# Altium schematic symbol library MCU_NXP_Kinetis.SchLib: 155 symbols (part 3 of 4)
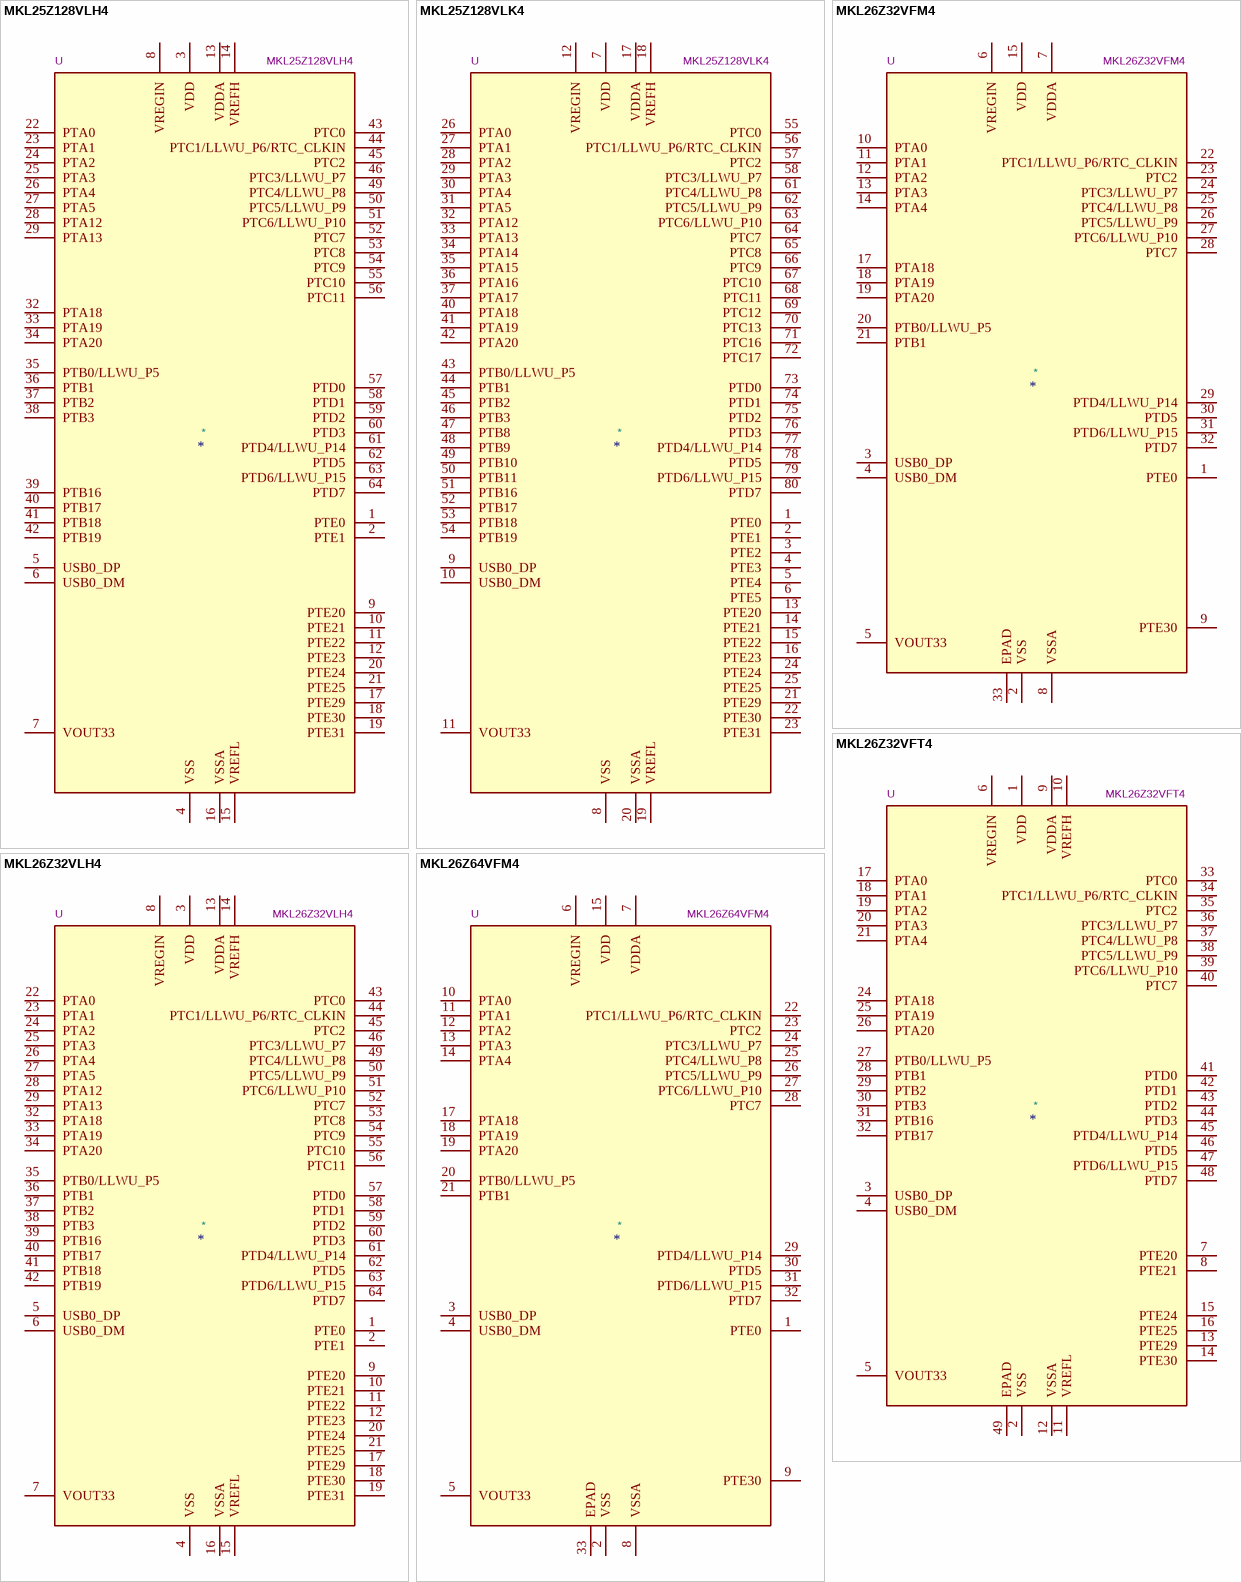
[diagram p32: symbols MKL25Z128VLH4 to MKL26Z64VFM4]

## MKL25Z128VLH4
designator *  value MKL25Z128VLH4  Reference: U
ki_keywords: Kinetis KL25 ARM Cortex M0+; ki_description: Kinetis KL25 series, 48-MHz/32-bit ARM Cortex-M0+, 128 kB flash, 16 kB SRAM, USB FS Device/OTG, LQFP-64; ki_fp_filters: LQFP*10x10mm*P0.5mm*; Footprint: Package_QFP:LQFP-64_10x10mm_P0.5mm; Datasheet: http://www.nxp.com/docs/en/data-sheet/KL25P80M48SF0.pdf
pins: 1 PTE0, 2 PTE1, 3 VDD, 4 VSS, 5 USB0_DP, 6 USB0_DM, 7 VOUT33, 8 VREGIN, 9 PTE20, 10 PTE21, 11 PTE22, 12 PTE23, 13 VDDA, 14 VREFH, 15 VREFL, 16 VSSA, 17 PTE29, 18 PTE30, 19 PTE31, 20 PTE24, 21 PTE25, 22 PTA0, 23 PTA1, 24 PTA2, 25 PTA3, 26 PTA4, 27 PTA5, 28 PTA12, 29 PTA13, 30 VDD hidden, 31 VSS hidden, 32 PTA18, 33 PTA19, 34 PTA20, 35 PTB0/LLWU_P5, 36 PTB1, 37 PTB2, 38 PTB3, 39 PTB16, 40 PTB17, 41 PTB18, 42 PTB19, 43 PTC0, 44 PTC1/LLWU_P6/RTC_CLKIN, 45 PTC2, 46 PTC3/LLWU_P7, 47 VSS hidden, 48 VDD hidden, 49 PTC4/LLWU_P8, 50 PTC5/LLWU_P9, 51 PTC6/LLWU_P10, 52 PTC7, 53 PTC8, 54 PTC9, 55 PTC10, 56 PTC11, 57 PTD0, 58 PTD1, 59 PTD2, 60 PTD3, 61 PTD4/LLWU_P14, 62 PTD5, 63 PTD6/LLWU_P15, 64 PTD7

## MKL25Z128VLK4
designator *  value MKL25Z128VLK4  Reference: U
ki_keywords: Kinetis KL25 ARM Cortex M0+; ki_description: Kinetis KL25 series, 48-MHz/32-bit ARM Cortex-M0+, 128 kB flash, 16 kB SRAM, USB FS Device/OTG, LQFP-80; ki_fp_filters: LQFP*12x12mm*P0.5mm*; Footprint: Package_QFP:LQFP-80_12x12mm_P0.5mm; Datasheet: http://www.nxp.com/docs/en/data-sheet/KL25P80M48SF0.pdf
pins: 1 PTE0, 2 PTE1, 3 PTE2, 4 PTE3, 5 PTE4, 6 PTE5, 7 VDD, 8 VSS, 9 USB0_DP, 10 USB0_DM, 11 VOUT33, 12 VREGIN, 13 PTE20, 14 PTE21, 15 PTE22, 16 PTE23, 17 VDDA, 18 VREFH, 19 VREFL, 20 VSSA, 21 PTE29, 22 PTE30, 23 PTE31, 24 PTE24, 25 PTE25, 26 PTA0, 27 PTA1, 28 PTA2, 29 PTA3, 30 PTA4, 31 PTA5, 32 PTA12, 33 PTA13, 34 PTA14, 35 PTA15, 36 PTA16, 37 PTA17, 38 VDD hidden, 39 VSS hidden, 40 PTA18, 41 PTA19, 42 PTA20, 43 PTB0/LLWU_P5, 44 PTB1, 45 PTB2, 46 PTB3, 47 PTB8, 48 PTB9, 49 PTB10, 50 PTB11, 51 PTB16, 52 PTB17, 53 PTB18, 54 PTB19, 55 PTC0, 56 PTC1/LLWU_P6/RTC_CLKIN, 57 PTC2, 58 PTC3/LLWU_P7, 59 VSS hidden, 60 VDD hidden, 61 PTC4/LLWU_P8, 62 PTC5/LLWU_P9, 63 PTC6/LLWU_P10, 64 PTC7, 65 PTC8, 66 PTC9, 67 PTC10, 68 PTC11, 69 PTC12, 70 PTC13, 71 PTC16, 72 PTC17, 73 PTD0, 74 PTD1, 75 PTD2, 76 PTD3, 77 PTD4/LLWU_P14, 78 PTD5, 79 PTD6/LLWU_P15, 80 PTD7

## MKL26Z32VFM4
designator *  value MKL26Z32VFM4  Reference: U
ki_keywords: Kinetis KL26 ARM Cortex M0+; ki_description: Kinetis KL26 series, 48-MHz/32-bit ARM Cortex-M0+, 32 kB flash, 4 kB SRAM, USB FS Device/OTG, QFN-32; ki_fp_filters: QFN*5x5mm*P0.5mm*; Footprint: Package_DFN_QFN:QFN-32-1EP_5x5mm_P0.5mm_EP3.45x3.45mm; Datasheet: http://www.nxp.com/docs/en/data-sheet/KL26P64M48SF5.pdf
pins: 1 PTE0, 2 VSS, 3 USB0_DP, 4 USB0_DM, 5 VOUT33, 6 VREGIN, 7 VDDA, 8 VSSA, 9 PTE30, 10 PTA0, 11 PTA1, 12 PTA2, 13 PTA3, 14 PTA4, 15 VDD, 16 VSS hidden, 17 PTA18, 18 PTA19, 19 PTA20, 20 PTB0/LLWU_P5, 21 PTB1, 22 PTC1/LLWU_P6/RTC_CLKIN, 23 PTC2, 24 PTC3/LLWU_P7, 25 PTC4/LLWU_P8, 26 PTC5/LLWU_P9, 27 PTC6/LLWU_P10, 28 PTC7, 29 PTD4/LLWU_P14, 30 PTD5, 31 PTD6/LLWU_P15, 32 PTD7, 33 EPAD

## MKL26Z32VFT4
designator *  value MKL26Z32VFT4  Reference: U
ki_keywords: Kinetis KL26 ARM Cortex M0+; ki_description: Kinetis KL26 series, 48-MHz/32-bit ARM Cortex-M0+, 32 kB flash, 4 kB SRAM, USB FS Device/OTG, QFN-48; ki_fp_filters: QFN*7x7mm*P0.5mm*; Footprint: Package_DFN_QFN:QFN-48-1EP_7x7mm_P0.5mm_EP5.15x5.15mm; Datasheet: http://www.nxp.com/docs/en/data-sheet/KL26P64M48SF5.pdf
pins: 1 VDD, 2 VSS, 3 USB0_DP, 4 USB0_DM, 5 VOUT33, 6 VREGIN, 7 PTE20, 8 PTE21, 9 VDDA, 10 VREFH, 11 VREFL, 12 VSSA, 13 PTE29, 14 PTE30, 15 PTE24, 16 PTE25, 17 PTA0, 18 PTA1, 19 PTA2, 20 PTA3, 21 PTA4, 22 VDD hidden, 23 VSS hidden, 24 PTA18, 25 PTA19, 26 PTA20, 27 PTB0/LLWU_P5, 28 PTB1, 29 PTB2, 30 PTB3, 31 PTB16, 32 PTB17, 33 PTC0, 34 PTC1/LLWU_P6/RTC_CLKIN, 35 PTC2, 36 PTC3/LLWU_P7, 37 PTC4/LLWU_P8, 38 PTC5/LLWU_P9, 39 PTC6/LLWU_P10, 40 PTC7, 41 PTD0, 42 PTD1, 43 PTD2, 44 PTD3, 45 PTD4/LLWU_P14, 46 PTD5, 47 PTD6/LLWU_P15, 48 PTD7, 49 EPAD

## MKL26Z32VLH4
designator *  value MKL26Z32VLH4  Reference: U
ki_keywords: Kinetis KL26 ARM Cortex M0+; ki_description: Kinetis KL26 series, 48-MHz/32-bit ARM Cortex-M0+, 32 kB flash, 4 kB SRAM, USB FS Device/OTG, LQFP-64; ki_fp_filters: LQFP*10x10mm*P0.5mm*; Footprint: Package_QFP:LQFP-64_10x10mm_P0.5mm; Datasheet: http://www.nxp.com/docs/en/data-sheet/KL26P64M48SF5.pdf
pins: 1 PTE0, 2 PTE1, 3 VDD, 4 VSS, 5 USB0_DP, 6 USB0_DM, 7 VOUT33, 8 VREGIN, 9 PTE20, 10 PTE21, 11 PTE22, 12 PTE23, 13 VDDA, 14 VREFH, 15 VREFL, 16 VSSA, 17 PTE29, 18 PTE30, 19 PTE31, 20 PTE24, 21 PTE25, 22 PTA0, 23 PTA1, 24 PTA2, 25 PTA3, 26 PTA4, 27 PTA5, 28 PTA12, 29 PTA13, 30 VDD hidden, 31 VSS hidden, 32 PTA18, 33 PTA19, 34 PTA20, 35 PTB0/LLWU_P5, 36 PTB1, 37 PTB2, 38 PTB3, 39 PTB16, 40 PTB17, 41 PTB18, 42 PTB19, 43 PTC0, 44 PTC1/LLWU_P6/RTC_CLKIN, 45 PTC2, 46 PTC3/LLWU_P7, 47 VSS hidden, 48 VDD hidden, 49 PTC4/LLWU_P8, 50 PTC5/LLWU_P9, 51 PTC6/LLWU_P10, 52 PTC7, 53 PTC8, 54 PTC9, 55 PTC10, 56 PTC11, 57 PTD0, 58 PTD1, 59 PTD2, 60 PTD3, 61 PTD4/LLWU_P14, 62 PTD5, 63 PTD6/LLWU_P15, 64 PTD7

## MKL26Z64VFM4
designator *  value MKL26Z64VFM4  Reference: U
ki_keywords: Kinetis KL26 ARM Cortex M0+; ki_description: Kinetis KL26 series, 48-MHz/32-bit ARM Cortex-M0+, 64 kB flash, 8 kB SRAM, USB FS Device/OTG, QFN-32; ki_fp_filters: QFN*5x5mm*P0.5mm*; Footprint: Package_DFN_QFN:QFN-32-1EP_5x5mm_P0.5mm_EP3.45x3.45mm; Datasheet: http://www.nxp.com/docs/en/data-sheet/KL26P64M48SF5.pdf
pins: 1 PTE0, 2 VSS, 3 USB0_DP, 4 USB0_DM, 5 VOUT33, 6 VREGIN, 7 VDDA, 8 VSSA, 9 PTE30, 10 PTA0, 11 PTA1, 12 PTA2, 13 PTA3, 14 PTA4, 15 VDD, 16 VSS hidden, 17 PTA18, 18 PTA19, 19 PTA20, 20 PTB0/LLWU_P5, 21 PTB1, 22 PTC1/LLWU_P6/RTC_CLKIN, 23 PTC2, 24 PTC3/LLWU_P7, 25 PTC4/LLWU_P8, 26 PTC5/LLWU_P9, 27 PTC6/LLWU_P10, 28 PTC7, 29 PTD4/LLWU_P14, 30 PTD5, 31 PTD6/LLWU_P15, 32 PTD7, 33 EPAD

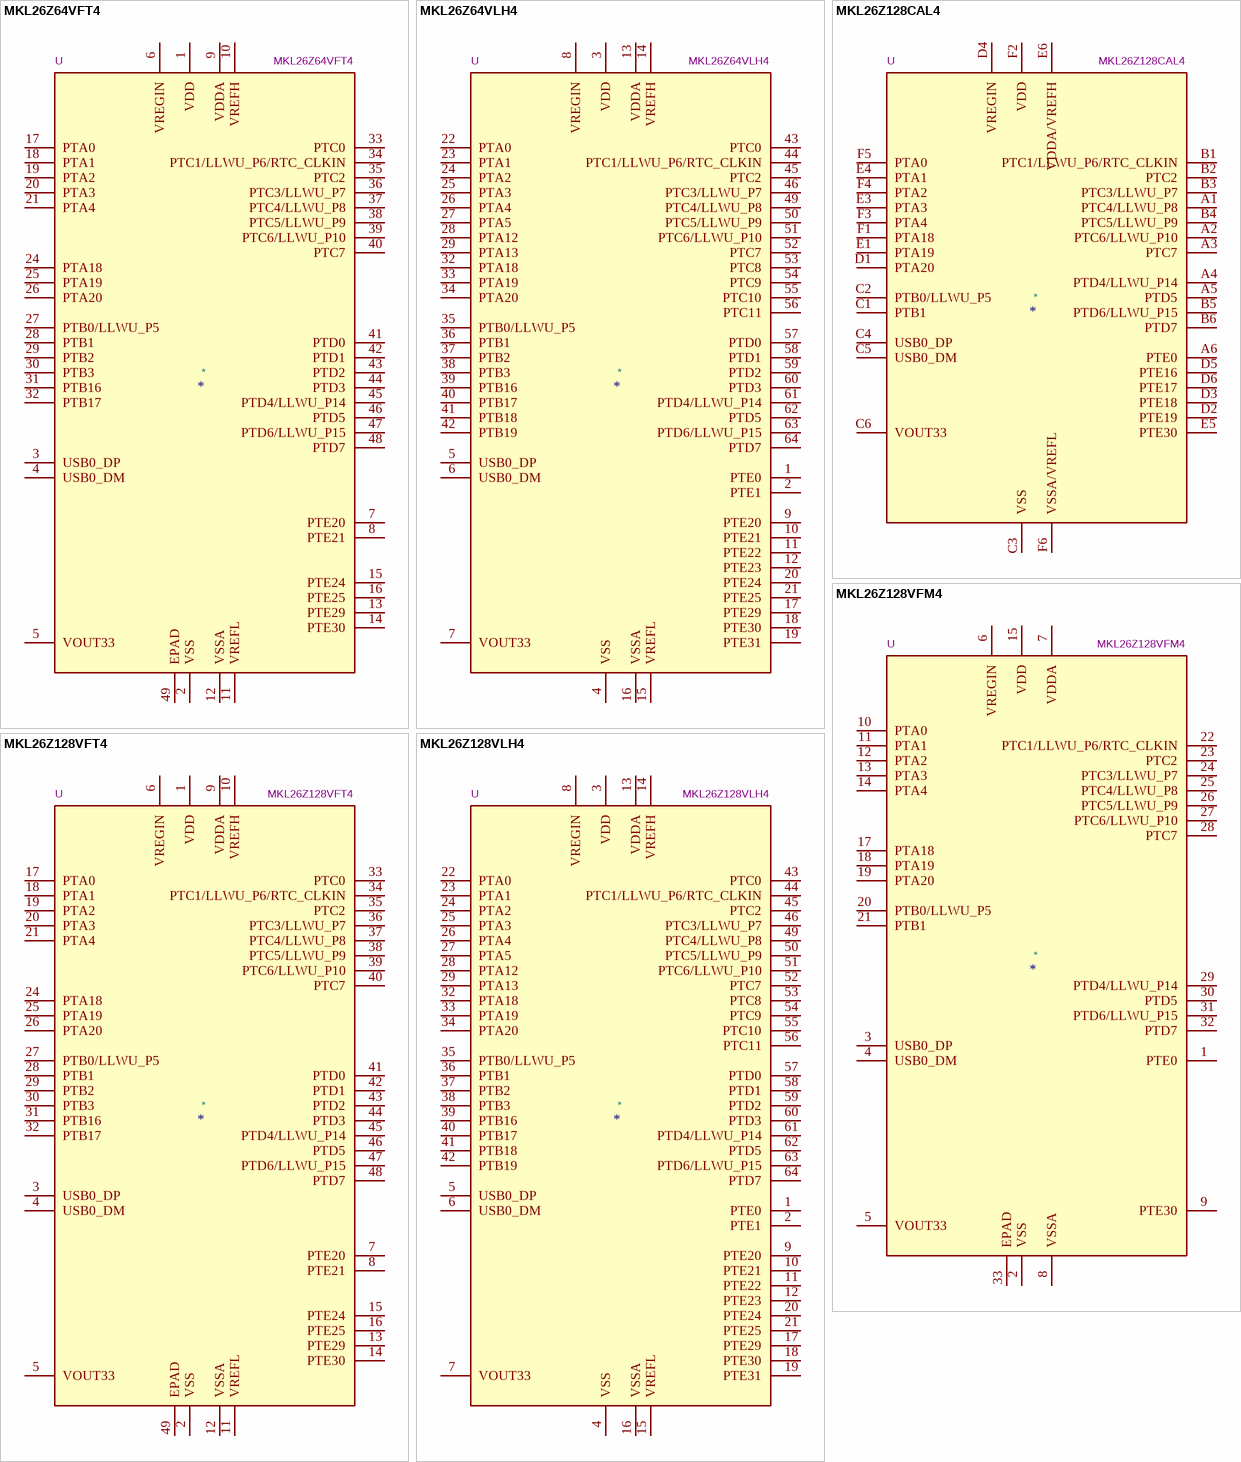
[diagram p21: symbols MKL26Z64VFT4 to MKL26Z128VLH4]

## MKL26Z64VFT4
designator *  value MKL26Z64VFT4  Reference: U
ki_keywords: Kinetis KL26 ARM Cortex M0+; ki_description: Kinetis KL26 series, 48-MHz/32-bit ARM Cortex-M0+, 64 kB flash, 8 kB SRAM, USB FS Device/OTG, QFN-48; ki_fp_filters: QFN*7x7mm*P0.5mm*; Footprint: Package_DFN_QFN:QFN-48-1EP_7x7mm_P0.5mm_EP5.15x5.15mm; Datasheet: http://www.nxp.com/docs/en/data-sheet/KL26P64M48SF5.pdf
pins: 1 VDD, 2 VSS, 3 USB0_DP, 4 USB0_DM, 5 VOUT33, 6 VREGIN, 7 PTE20, 8 PTE21, 9 VDDA, 10 VREFH, 11 VREFL, 12 VSSA, 13 PTE29, 14 PTE30, 15 PTE24, 16 PTE25, 17 PTA0, 18 PTA1, 19 PTA2, 20 PTA3, 21 PTA4, 22 VDD hidden, 23 VSS hidden, 24 PTA18, 25 PTA19, 26 PTA20, 27 PTB0/LLWU_P5, 28 PTB1, 29 PTB2, 30 PTB3, 31 PTB16, 32 PTB17, 33 PTC0, 34 PTC1/LLWU_P6/RTC_CLKIN, 35 PTC2, 36 PTC3/LLWU_P7, 37 PTC4/LLWU_P8, 38 PTC5/LLWU_P9, 39 PTC6/LLWU_P10, 40 PTC7, 41 PTD0, 42 PTD1, 43 PTD2, 44 PTD3, 45 PTD4/LLWU_P14, 46 PTD5, 47 PTD6/LLWU_P15, 48 PTD7, 49 EPAD

## MKL26Z64VLH4
designator *  value MKL26Z64VLH4  Reference: U
ki_keywords: Kinetis KL26 ARM Cortex M0+; ki_description: Kinetis KL26 series, 48-MHz/32-bit ARM Cortex-M0+, 64 kB flash, 8 kB SRAM, USB FS Device/OTG, LQFP-64; ki_fp_filters: LQFP*10x10mm*P0.5mm*; Footprint: Package_QFP:LQFP-64_10x10mm_P0.5mm; Datasheet: http://www.nxp.com/docs/en/data-sheet/KL26P64M48SF5.pdf
pins: 1 PTE0, 2 PTE1, 3 VDD, 4 VSS, 5 USB0_DP, 6 USB0_DM, 7 VOUT33, 8 VREGIN, 9 PTE20, 10 PTE21, 11 PTE22, 12 PTE23, 13 VDDA, 14 VREFH, 15 VREFL, 16 VSSA, 17 PTE29, 18 PTE30, 19 PTE31, 20 PTE24, 21 PTE25, 22 PTA0, 23 PTA1, 24 PTA2, 25 PTA3, 26 PTA4, 27 PTA5, 28 PTA12, 29 PTA13, 30 VDD hidden, 31 VSS hidden, 32 PTA18, 33 PTA19, 34 PTA20, 35 PTB0/LLWU_P5, 36 PTB1, 37 PTB2, 38 PTB3, 39 PTB16, 40 PTB17, 41 PTB18, 42 PTB19, 43 PTC0, 44 PTC1/LLWU_P6/RTC_CLKIN, 45 PTC2, 46 PTC3/LLWU_P7, 47 VSS hidden, 48 VDD hidden, 49 PTC4/LLWU_P8, 50 PTC5/LLWU_P9, 51 PTC6/LLWU_P10, 52 PTC7, 53 PTC8, 54 PTC9, 55 PTC10, 56 PTC11, 57 PTD0, 58 PTD1, 59 PTD2, 60 PTD3, 61 PTD4/LLWU_P14, 62 PTD5, 63 PTD6/LLWU_P15, 64 PTD7

## MKL26Z128CAL4
designator *  value MKL26Z128CAL4  Reference: U
ki_keywords: Kinetis KL26 ARM Cortex M0+; ki_description: Kinetis KL26 series, 48-MHz/32-bit ARM Cortex-M0+, 128 kB flash, 16 kB SRAM, USB FS Device/OTG, WLCSP-36; ki_fp_filters: WLCSP*2.374x2.459mm*P0.35mm*; Footprint: Package_CSP:WLCSP-36_2.374x2.459mm_Layout6x6_P0.35mm; Datasheet: http://www.nxp.com/docs/en/data-sheet/KL26P36M48SF5.pdf
pins: A1 PTC4/LLWU_P8, A2 PTC6/LLWU_P10, A3 PTC7, A4 PTD4/LLWU_P14, A5 PTD5, A6 PTE0, B1 PTC1/LLWU_P6/RTC_CLKIN, B2 PTC2, B3 PTC3/LLWU_P7, B4 PTC5/LLWU_P9, B5 PTD6/LLWU_P15, B6 PTD7, C1 PTB1, C2 PTB0/LLWU_P5, C3 VSS, C4 USB0_DP, C5 USB0_DM, C6 VOUT33, D1 PTA20, D2 PTE19, D3 PTE18, D4 VREGIN, D5 PTE16, D6 PTE17, E1 PTA19, E2 VSS hidden, E3 PTA3, E4 PTA1, E5 PTE30, E6 VDDA/VREFH, F1 PTA18, F2 VDD, F3 PTA4, F4 PTA2, F5 PTA0, F6 VSSA/VREFL

## MKL26Z128VFM4
designator *  value MKL26Z128VFM4  Reference: U
ki_keywords: Kinetis KL26 ARM Cortex M0+; ki_description: Kinetis KL26 series, 48-MHz/32-bit ARM Cortex-M0+, 128 kB flash, 16 kB SRAM, USB FS Device/OTG, QFN-32; ki_fp_filters: QFN*5x5mm*P0.5mm*; Footprint: Package_DFN_QFN:QFN-32-1EP_5x5mm_P0.5mm_EP3.45x3.45mm; Datasheet: http://www.nxp.com/docs/en/data-sheet/KL26P64M48SF5.pdf
pins: 1 PTE0, 2 VSS, 3 USB0_DP, 4 USB0_DM, 5 VOUT33, 6 VREGIN, 7 VDDA, 8 VSSA, 9 PTE30, 10 PTA0, 11 PTA1, 12 PTA2, 13 PTA3, 14 PTA4, 15 VDD, 16 VSS hidden, 17 PTA18, 18 PTA19, 19 PTA20, 20 PTB0/LLWU_P5, 21 PTB1, 22 PTC1/LLWU_P6/RTC_CLKIN, 23 PTC2, 24 PTC3/LLWU_P7, 25 PTC4/LLWU_P8, 26 PTC5/LLWU_P9, 27 PTC6/LLWU_P10, 28 PTC7, 29 PTD4/LLWU_P14, 30 PTD5, 31 PTD6/LLWU_P15, 32 PTD7, 33 EPAD

## MKL26Z128VFT4
designator *  value MKL26Z128VFT4  Reference: U
ki_keywords: Kinetis KL26 ARM Cortex M0+; ki_description: Kinetis KL26 series, 48-MHz/32-bit ARM Cortex-M0+, 128 kB flash, 16 kB SRAM, USB FS Device/OTG, QFN-48; ki_fp_filters: QFN*7x7mm*P0.5mm*; Footprint: Package_DFN_QFN:QFN-48-1EP_7x7mm_P0.5mm_EP5.15x5.15mm; Datasheet: http://www.nxp.com/docs/en/data-sheet/KL26P64M48SF5.pdf
pins: 1 VDD, 2 VSS, 3 USB0_DP, 4 USB0_DM, 5 VOUT33, 6 VREGIN, 7 PTE20, 8 PTE21, 9 VDDA, 10 VREFH, 11 VREFL, 12 VSSA, 13 PTE29, 14 PTE30, 15 PTE24, 16 PTE25, 17 PTA0, 18 PTA1, 19 PTA2, 20 PTA3, 21 PTA4, 22 VDD hidden, 23 VSS hidden, 24 PTA18, 25 PTA19, 26 PTA20, 27 PTB0/LLWU_P5, 28 PTB1, 29 PTB2, 30 PTB3, 31 PTB16, 32 PTB17, 33 PTC0, 34 PTC1/LLWU_P6/RTC_CLKIN, 35 PTC2, 36 PTC3/LLWU_P7, 37 PTC4/LLWU_P8, 38 PTC5/LLWU_P9, 39 PTC6/LLWU_P10, 40 PTC7, 41 PTD0, 42 PTD1, 43 PTD2, 44 PTD3, 45 PTD4/LLWU_P14, 46 PTD5, 47 PTD6/LLWU_P15, 48 PTD7, 49 EPAD

## MKL26Z128VLH4
designator *  value MKL26Z128VLH4  Reference: U
ki_keywords: Kinetis KL26 ARM Cortex M0+; ki_description: Kinetis KL26 series, 48-MHz/32-bit ARM Cortex-M0+, 128 kB flash, 16 kB SRAM, USB FS Device/OTG, LQFP-64; ki_fp_filters: LQFP*10x10mm*P0.5mm*; Footprint: Package_QFP:LQFP-64_10x10mm_P0.5mm; Datasheet: http://www.nxp.com/docs/en/data-sheet/KL26P64M48SF5.pdf
pins: 1 PTE0, 2 PTE1, 3 VDD, 4 VSS, 5 USB0_DP, 6 USB0_DM, 7 VOUT33, 8 VREGIN, 9 PTE20, 10 PTE21, 11 PTE22, 12 PTE23, 13 VDDA, 14 VREFH, 15 VREFL, 16 VSSA, 17 PTE29, 18 PTE30, 19 PTE31, 20 PTE24, 21 PTE25, 22 PTA0, 23 PTA1, 24 PTA2, 25 PTA3, 26 PTA4, 27 PTA5, 28 PTA12, 29 PTA13, 30 VDD hidden, 31 VSS hidden, 32 PTA18, 33 PTA19, 34 PTA20, 35 PTB0/LLWU_P5, 36 PTB1, 37 PTB2, 38 PTB3, 39 PTB16, 40 PTB17, 41 PTB18, 42 PTB19, 43 PTC0, 44 PTC1/LLWU_P6/RTC_CLKIN, 45 PTC2, 46 PTC3/LLWU_P7, 47 VSS hidden, 48 VDD hidden, 49 PTC4/LLWU_P8, 50 PTC5/LLWU_P9, 51 PTC6/LLWU_P10, 52 PTC7, 53 PTC8, 54 PTC9, 55 PTC10, 56 PTC11, 57 PTD0, 58 PTD1, 59 PTD2, 60 PTD3, 61 PTD4/LLWU_P14, 62 PTD5, 63 PTD6/LLWU_P15, 64 PTD7

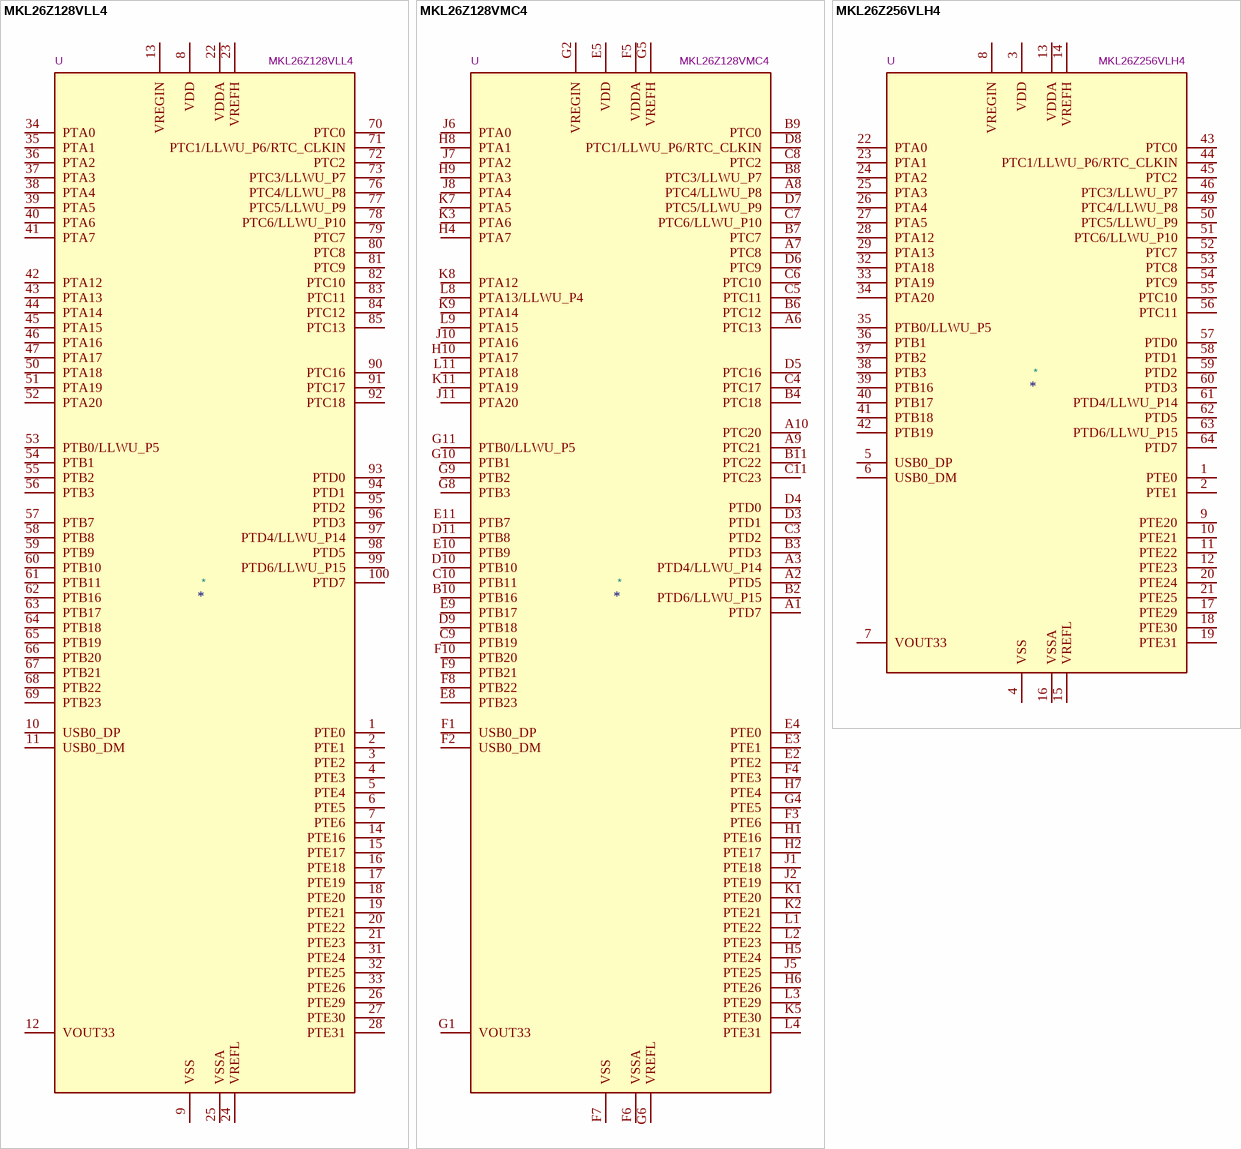
[diagram p22: symbols MKL26Z128VLL4 to MKL26Z256VLH4]

## MKL26Z128VLL4
designator *  value MKL26Z128VLL4  Reference: U
ki_keywords: Kinetis KL26 ARM Cortex M0+; ki_description: Kinetis KL26 series, 48-MHz/32-bit ARM Cortex-M0+, 128 kB flash, 16 kB SRAM, USB FS Device/OTG, LQFP-100; ki_fp_filters: LQFP*14x14mm*P0.5mm*; Footprint: Package_QFP:LQFP-100_14x14mm_P0.5mm; Datasheet: http://www.nxp.com/docs/en/data-sheet/KL26P121M48SF4.pdf
pins: 1 PTE0, 2 PTE1, 3 PTE2, 4 PTE3, 5 PTE4, 6 PTE5, 7 PTE6, 8 VDD, 9 VSS, 10 USB0_DP, 11 USB0_DM, 12 VOUT33, 13 VREGIN, 14 PTE16, 15 PTE17, 16 PTE18, 17 PTE19, 18 PTE20, 19 PTE21, 20 PTE22, 21 PTE23, 22 VDDA, 23 VREFH, 24 VREFL, 25 VSSA, 26 PTE29, 27 PTE30, 28 PTE31, 29 VSS hidden, 30 VDD hidden, 31 PTE24, 32 PTE25, 33 PTE26, 34 PTA0, 35 PTA1, 36 PTA2, 37 PTA3, 38 PTA4, 39 PTA5, 40 PTA6, 41 PTA7, 42 PTA12, 43 PTA13, 44 PTA14, 45 PTA15, 46 PTA16, 47 PTA17, 48 VDD hidden, 49 VSS hidden, 50 PTA18, 51 PTA19, 52 PTA20, 53 PTB0/LLWU_P5, 54 PTB1, 55 PTB2, 56 PTB3, 57 PTB7, 58 PTB8, 59 PTB9, 60 PTB10, 61 PTB11, 62 PTB16, 63 PTB17, 64 PTB18, 65 PTB19, 66 PTB20, 67 PTB21, 68 PTB22, 69 PTB23, 70 PTC0, 71 PTC1/LLWU_P6/RTC_CLKIN, 72 PTC2, 73 PTC3/LLWU_P7, 74 VSS hidden, 75 VDD hidden, 76 PTC4/LLWU_P8, 77 PTC5/LLWU_P9, 78 PTC6/LLWU_P10, 79 PTC7, 80 PTC8, 81 PTC9, 82 PTC10, 83 PTC11, 84 PTC12, 85 PTC13, 86 NC hidden, 87 NC hidden, 88 NC hidden, 89 NC hidden, 90 PTC16, 91 PTC17, 92 PTC18, 93 PTD0, 94 PTD1, 95 PTD2, 96 PTD3, 97 PTD4/LLWU_P14, 98 PTD5, 99 PTD6/LLWU_P15, 100 PTD7

## MKL26Z128VMC4
designator *  value MKL26Z128VMC4  Reference: U
ki_keywords: Kinetis KL26 ARM Cortex M0+; ki_description: Kinetis KL26 series, 48-MHz/32-bit ARM Cortex-M0+, 128 kB flash, 16 kB SRAM, USB FS Device/OTG, XFBGA-121; ki_fp_filters: XFBGA*8x8mm*P0.65mm*; Footprint: Package_BGA:XFBGA-121_8x8mm_Layout11x11_P0.65mm; Datasheet: http://www.nxp.com/docs/en/data-sheet/KL26P121M48SF4.pdf
pins: A1 PTD7, A2 PTD5, A3 PTD4/LLWU_P14, A4 NC hidden, A5 NC hidden, A6 PTC13, A7 PTC8, A8 PTC4/LLWU_P8, A9 PTC21, A10 PTC20, A11 NC hidden, B1 NC hidden, B2 PTD6/LLWU_P15, B3 PTD3, B4 PTC18, B5 NC hidden, B6 PTC12, B7 PTC7, B8 PTC3/LLWU_P7, B9 PTC0, B10 PTB16, B11 PTC22, C1 NC hidden, C2 NC hidden, C3 PTD2, C4 PTC17, C5 PTC11, C6 PTC10, C7 PTC6/LLWU_P10, C8 PTC2, C9 PTB19, C10 PTB11, C11 PTC23, D1 NC hidden, D2 NC hidden, D3 PTD1, D4 PTD0, D5 PTC16, D6 PTC9, D7 PTC5/LLWU_P9, D8 PTC1/LLWU_P6/RTC_CLKIN, D9 PTB18, D10 PTB10, D11 PTB8, E1 NC hidden, E2 PTE2, E3 PTE1, E4 PTE0, E5 VDD, E6 VDD hidden, E7 VDD hidden, E8 PTB23, E9 PTB17, E10 PTB9, E11 PTB7, F1 USB0_DP, F2 USB0_DM, F3 PTE6, F4 PTE3, F5 VDDA, F6 VSSA, F7 VSS, F8 PTB22, F9 PTB21, F10 PTB20, F11 NC hidden, G1 VOUT33, G2 VREGIN, G3 VSS hidden, G4 PTE5, G5 VREFH, G6 VREFL, G7 VSS hidden, G8 PTB3, G9 PTB2, G10 PTB1, G11 PTB0/LLWU_P5, H1 PTE16, H2 PTE17, H3 NC hidden, H4 PTA7, H5 PTE24, H6 PTE26, H7 PTE4, H8 PTA1, H9 PTA3, H10 PTA17, H11 NC hidden, J1 PTE18, J2 PTE19, J3 NC hidden, J4 NC hidden, J5 PTE25, J6 PTA0, J7 PTA2, J8 PTA4, J9 NC hidden, J10 PTA16, J11 PTA20, K1 PTE20, K2 PTE21, K3 PTA6, K4 NC hidden, K5 PTE30, K6 VDD hidden, K7 PTA5, K8 PTA12, K9 PTA14, K10 VSS hidden, K11 PTA19, L1 PTE22, L2 PTE23, L3 PTE29, L4 PTE31, L5 VSS hidden, L6 VSS hidden, L7 NC hidden, L8 PTA13/LLWU_P4, L9 PTA15, L10 VDD hidden, L11 PTA18

## MKL26Z256VLH4
designator *  value MKL26Z256VLH4  Reference: U
ki_keywords: Kinetis KL26 ARM Cortex M0+; ki_description: Kinetis KL26 series, 48-MHz/32-bit ARM Cortex-M0+, 256 kB flash, 32 kB SRAM, USB FS Device/OTG, LQFP-64; ki_fp_filters: LQFP*10x10mm*P0.5mm*; Footprint: Package_QFP:LQFP-64_10x10mm_P0.5mm; Datasheet: http://www.nxp.com/docs/en/data-sheet/KL26P121M48SF4.pdf
pins: 1 PTE0, 2 PTE1, 3 VDD, 4 VSS, 5 USB0_DP, 6 USB0_DM, 7 VOUT33, 8 VREGIN, 9 PTE20, 10 PTE21, 11 PTE22, 12 PTE23, 13 VDDA, 14 VREFH, 15 VREFL, 16 VSSA, 17 PTE29, 18 PTE30, 19 PTE31, 20 PTE24, 21 PTE25, 22 PTA0, 23 PTA1, 24 PTA2, 25 PTA3, 26 PTA4, 27 PTA5, 28 PTA12, 29 PTA13, 30 VDD hidden, 31 VSS hidden, 32 PTA18, 33 PTA19, 34 PTA20, 35 PTB0/LLWU_P5, 36 PTB1, 37 PTB2, 38 PTB3, 39 PTB16, 40 PTB17, 41 PTB18, 42 PTB19, 43 PTC0, 44 PTC1/LLWU_P6/RTC_CLKIN, 45 PTC2, 46 PTC3/LLWU_P7, 47 VSS hidden, 48 VDD hidden, 49 PTC4/LLWU_P8, 50 PTC5/LLWU_P9, 51 PTC6/LLWU_P10, 52 PTC7, 53 PTC8, 54 PTC9, 55 PTC10, 56 PTC11, 57 PTD0, 58 PTD1, 59 PTD2, 60 PTD3, 61 PTD4/LLWU_P14, 62 PTD5, 63 PTD6/LLWU_P15, 64 PTD7

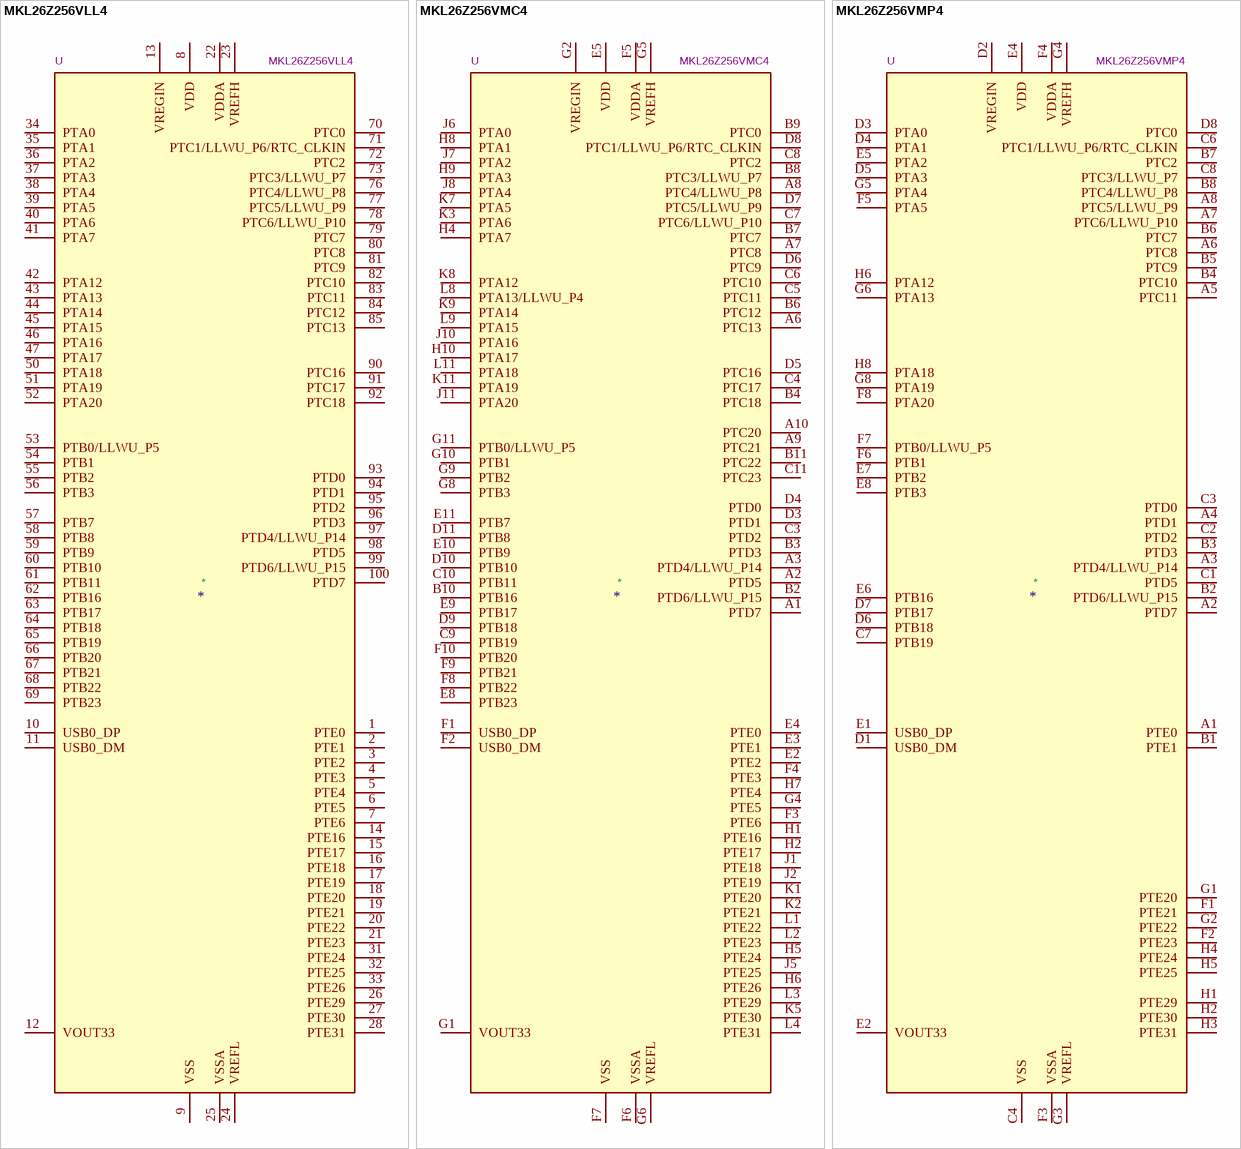
[diagram p23: symbols MKL26Z256VLL4 to MKL26Z256VMP4]

## MKL26Z256VLL4
designator *  value MKL26Z256VLL4  Reference: U
ki_keywords: Kinetis KL26 ARM Cortex M0+; ki_description: Kinetis KL26 series, 48-MHz/32-bit ARM Cortex-M0+, 256 kB flash, 32 kB SRAM, USB FS Device/OTG, LQFP-100; ki_fp_filters: LQFP*14x14mm*P0.5mm*; Footprint: Package_QFP:LQFP-100_14x14mm_P0.5mm; Datasheet: http://www.nxp.com/docs/en/data-sheet/KL26P121M48SF4.pdf
pins: 1 PTE0, 2 PTE1, 3 PTE2, 4 PTE3, 5 PTE4, 6 PTE5, 7 PTE6, 8 VDD, 9 VSS, 10 USB0_DP, 11 USB0_DM, 12 VOUT33, 13 VREGIN, 14 PTE16, 15 PTE17, 16 PTE18, 17 PTE19, 18 PTE20, 19 PTE21, 20 PTE22, 21 PTE23, 22 VDDA, 23 VREFH, 24 VREFL, 25 VSSA, 26 PTE29, 27 PTE30, 28 PTE31, 29 VSS hidden, 30 VDD hidden, 31 PTE24, 32 PTE25, 33 PTE26, 34 PTA0, 35 PTA1, 36 PTA2, 37 PTA3, 38 PTA4, 39 PTA5, 40 PTA6, 41 PTA7, 42 PTA12, 43 PTA13, 44 PTA14, 45 PTA15, 46 PTA16, 47 PTA17, 48 VDD hidden, 49 VSS hidden, 50 PTA18, 51 PTA19, 52 PTA20, 53 PTB0/LLWU_P5, 54 PTB1, 55 PTB2, 56 PTB3, 57 PTB7, 58 PTB8, 59 PTB9, 60 PTB10, 61 PTB11, 62 PTB16, 63 PTB17, 64 PTB18, 65 PTB19, 66 PTB20, 67 PTB21, 68 PTB22, 69 PTB23, 70 PTC0, 71 PTC1/LLWU_P6/RTC_CLKIN, 72 PTC2, 73 PTC3/LLWU_P7, 74 VSS hidden, 75 VDD hidden, 76 PTC4/LLWU_P8, 77 PTC5/LLWU_P9, 78 PTC6/LLWU_P10, 79 PTC7, 80 PTC8, 81 PTC9, 82 PTC10, 83 PTC11, 84 PTC12, 85 PTC13, 86 NC hidden, 87 NC hidden, 88 NC hidden, 89 NC hidden, 90 PTC16, 91 PTC17, 92 PTC18, 93 PTD0, 94 PTD1, 95 PTD2, 96 PTD3, 97 PTD4/LLWU_P14, 98 PTD5, 99 PTD6/LLWU_P15, 100 PTD7

## MKL26Z256VMC4
designator *  value MKL26Z256VMC4  Reference: U
ki_keywords: Kinetis KL26 ARM Cortex M0+; ki_description: Kinetis KL26 series, 48-MHz/32-bit ARM Cortex-M0+, 256 kB flash, 32 kB SRAM, USB FS Device/OTG, XFBGA-121; ki_fp_filters: XFBGA*8x8mm*P0.65mm*; Footprint: Package_BGA:XFBGA-121_8x8mm_Layout11x11_P0.65mm; Datasheet: http://www.nxp.com/docs/en/data-sheet/KL26P121M48SF4.pdf
pins: A1 PTD7, A2 PTD5, A3 PTD4/LLWU_P14, A4 NC hidden, A5 NC hidden, A6 PTC13, A7 PTC8, A8 PTC4/LLWU_P8, A9 PTC21, A10 PTC20, A11 NC hidden, B1 NC hidden, B2 PTD6/LLWU_P15, B3 PTD3, B4 PTC18, B5 NC hidden, B6 PTC12, B7 PTC7, B8 PTC3/LLWU_P7, B9 PTC0, B10 PTB16, B11 PTC22, C1 NC hidden, C2 NC hidden, C3 PTD2, C4 PTC17, C5 PTC11, C6 PTC10, C7 PTC6/LLWU_P10, C8 PTC2, C9 PTB19, C10 PTB11, C11 PTC23, D1 NC hidden, D2 NC hidden, D3 PTD1, D4 PTD0, D5 PTC16, D6 PTC9, D7 PTC5/LLWU_P9, D8 PTC1/LLWU_P6/RTC_CLKIN, D9 PTB18, D10 PTB10, D11 PTB8, E1 NC hidden, E2 PTE2, E3 PTE1, E4 PTE0, E5 VDD, E6 VDD hidden, E7 VDD hidden, E8 PTB23, E9 PTB17, E10 PTB9, E11 PTB7, F1 USB0_DP, F2 USB0_DM, F3 PTE6, F4 PTE3, F5 VDDA, F6 VSSA, F7 VSS, F8 PTB22, F9 PTB21, F10 PTB20, F11 NC hidden, G1 VOUT33, G2 VREGIN, G3 VSS hidden, G4 PTE5, G5 VREFH, G6 VREFL, G7 VSS hidden, G8 PTB3, G9 PTB2, G10 PTB1, G11 PTB0/LLWU_P5, H1 PTE16, H2 PTE17, H3 NC hidden, H4 PTA7, H5 PTE24, H6 PTE26, H7 PTE4, H8 PTA1, H9 PTA3, H10 PTA17, H11 NC hidden, J1 PTE18, J2 PTE19, J3 NC hidden, J4 NC hidden, J5 PTE25, J6 PTA0, J7 PTA2, J8 PTA4, J9 NC hidden, J10 PTA16, J11 PTA20, K1 PTE20, K2 PTE21, K3 PTA6, K4 NC hidden, K5 PTE30, K6 VDD hidden, K7 PTA5, K8 PTA12, K9 PTA14, K10 VSS hidden, K11 PTA19, L1 PTE22, L2 PTE23, L3 PTE29, L4 PTE31, L5 VSS hidden, L6 VSS hidden, L7 NC hidden, L8 PTA13/LLWU_P4, L9 PTA15, L10 VDD hidden, L11 PTA18

## MKL26Z256VMP4
designator *  value MKL26Z256VMP4  Reference: U
ki_keywords: Kinetis KL26 ARM Cortex M0+; ki_description: Kinetis KL26 series, 48-MHz/32-bit ARM Cortex-M0+, 256 kB flash, 32 kB SRAM, USB FS Device/OTG, XFBGA-64; ki_fp_filters: XFBGA*5.0x5.0mm*P0.5mm*; Footprint: Package_BGA:XFBGA-64_5.0x5.0mm_Layout8x8_P0.5mm; Datasheet: http://www.nxp.com/docs/en/data-sheet/KL26P121M48SF4.pdf
pins: A1 PTE0, A2 PTD7, A3 PTD4/LLWU_P14, A4 PTD1, A5 PTC11, A6 PTC8, A7 PTC6/LLWU_P10, A8 PTC5/LLWU_P9, B1 PTE1, B2 PTD6/LLWU_P15, B3 PTD3, B4 PTC10, B5 PTC9, B6 PTC7, B7 PTC2, B8 PTC4/LLWU_P8, C1 PTD5, C2 PTD2, C3 PTD0, C4 VSS, C5 NC hidden, C6 PTC1/LLWU_P6/RTC_CLKIN, C7 PTB19, C8 PTC3/LLWU_P7, D1 USB0_DM, D2 VREGIN, D3 PTA0, D4 PTA1, D5 PTA3, D6 PTB18, D7 PTB17, D8 PTC0, E1 USB0_DP, E2 VOUT33, E3 VSS hidden, E4 VDD, E5 PTA2, E6 PTB16, E7 PTB2, E8 PTB3, F1 PTE21, F2 PTE23, F3 VSSA, F4 VDDA, F5 PTA5, F6 PTB1, F7 PTB0/LLWU_P5, F8 PTA20, G1 PTE20, G2 PTE22, G3 VREFL, G4 VREFH, G5 PTA4, G6 PTA13, G7 VDD hidden, G8 PTA19, H1 PTE29, H2 PTE30, H3 PTE31, H4 PTE24, H5 PTE25, H6 PTA12, H7 VSS hidden, H8 PTA18

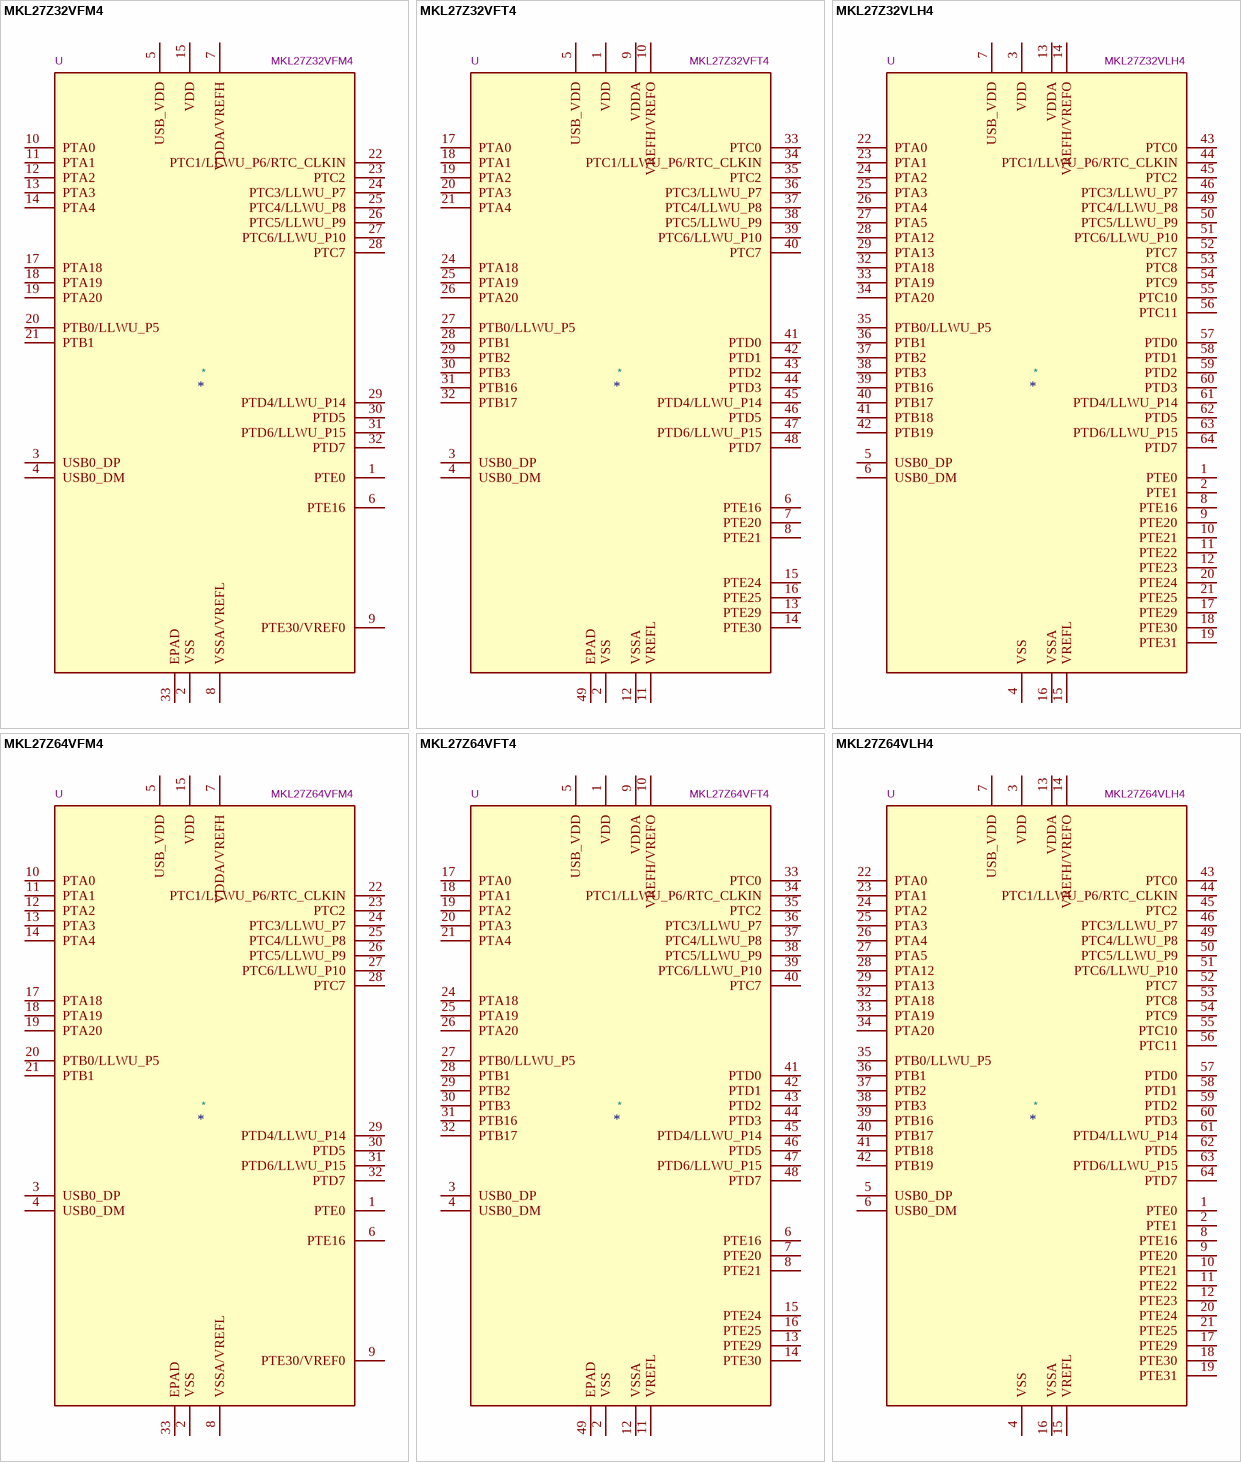
[diagram p24: symbols MKL27Z32VFM4 to MKL27Z64VLH4]

## MKL27Z32VFM4
designator *  value MKL27Z32VFM4  Reference: U
ki_keywords: Kinetis KL27 ARM Cortex M0+; ki_description: Kinetis KL27 series, 48-MHz/32-bit ARM Cortex-M0+, 32 kB flash, 8 kB SRAM, USB FS Device (xtal-less)/OTG, QFN-32; ki_fp_filters: QFN*5x5mm*P0.5mm*; Footprint: Package_DFN_QFN:QFN-32-1EP_5x5mm_P0.5mm_EP3.45x3.45mm; Datasheet: http://www.nxp.com/docs/en/data-sheet/KL27P64M48SF2.pdf
pins: 1 PTE0, 2 VSS, 3 USB0_DP, 4 USB0_DM, 5 USB_VDD, 6 PTE16, 7 VDDA/VREFH, 8 VSSA/VREFL, 9 PTE30/VREF0, 10 PTA0, 11 PTA1, 12 PTA2, 13 PTA3, 14 PTA4, 15 VDD, 16 VSS hidden, 17 PTA18, 18 PTA19, 19 PTA20, 20 PTB0/LLWU_P5, 21 PTB1, 22 PTC1/LLWU_P6/RTC_CLKIN, 23 PTC2, 24 PTC3/LLWU_P7, 25 PTC4/LLWU_P8, 26 PTC5/LLWU_P9, 27 PTC6/LLWU_P10, 28 PTC7, 29 PTD4/LLWU_P14, 30 PTD5, 31 PTD6/LLWU_P15, 32 PTD7, 33 EPAD

## MKL27Z32VFT4
designator *  value MKL27Z32VFT4  Reference: U
ki_keywords: Kinetis KL27 ARM Cortex M0+; ki_description: Kinetis KL27 series, 48-MHz/32-bit ARM Cortex-M0+, 32 kB flash, 8 kB SRAM, USB FS Device (xtal-less)/OTG, QFN-48; ki_fp_filters: QFN*7x7mm*P0.5mm*; Footprint: Package_DFN_QFN:QFN-48-1EP_7x7mm_P0.5mm_EP5.15x5.15mm; Datasheet: http://www.nxp.com/docs/en/data-sheet/KL27P64M48SF2.pdf
pins: 1 VDD, 2 VSS, 3 USB0_DP, 4 USB0_DM, 5 USB_VDD, 6 PTE16, 7 PTE20, 8 PTE21, 9 VDDA, 10 VREFH/VREFO, 11 VREFL, 12 VSSA, 13 PTE29, 14 PTE30, 15 PTE24, 16 PTE25, 17 PTA0, 18 PTA1, 19 PTA2, 20 PTA3, 21 PTA4, 22 VDD hidden, 23 VSS hidden, 24 PTA18, 25 PTA19, 26 PTA20, 27 PTB0/LLWU_P5, 28 PTB1, 29 PTB2, 30 PTB3, 31 PTB16, 32 PTB17, 33 PTC0, 34 PTC1/LLWU_P6/RTC_CLKIN, 35 PTC2, 36 PTC3/LLWU_P7, 37 PTC4/LLWU_P8, 38 PTC5/LLWU_P9, 39 PTC6/LLWU_P10, 40 PTC7, 41 PTD0, 42 PTD1, 43 PTD2, 44 PTD3, 45 PTD4/LLWU_P14, 46 PTD5, 47 PTD6/LLWU_P15, 48 PTD7, 49 EPAD

## MKL27Z32VLH4
designator *  value MKL27Z32VLH4  Reference: U
ki_keywords: Kinetis KL27 ARM Cortex M0+; ki_description: Kinetis KL27 series, 48-MHz/32-bit ARM Cortex-M0+, 32 kB flash, 8 kB SRAM, USB FS Device (xtal-less)/OTG, LQFP-64; ki_fp_filters: LQFP*10x10mm*P0.5mm*; Footprint: Package_QFP:LQFP-64_10x10mm_P0.5mm; Datasheet: http://www.nxp.com/docs/en/data-sheet/KL27P64M48SF2.pdf
pins: 1 PTE0, 2 PTE1, 3 VDD, 4 VSS, 5 USB0_DP, 6 USB0_DM, 7 USB_VDD, 8 PTE16, 9 PTE20, 10 PTE21, 11 PTE22, 12 PTE23, 13 VDDA, 14 VREFH/VREFO, 15 VREFL, 16 VSSA, 17 PTE29, 18 PTE30, 19 PTE31, 20 PTE24, 21 PTE25, 22 PTA0, 23 PTA1, 24 PTA2, 25 PTA3, 26 PTA4, 27 PTA5, 28 PTA12, 29 PTA13, 30 VDD hidden, 31 VSS hidden, 32 PTA18, 33 PTA19, 34 PTA20, 35 PTB0/LLWU_P5, 36 PTB1, 37 PTB2, 38 PTB3, 39 PTB16, 40 PTB17, 41 PTB18, 42 PTB19, 43 PTC0, 44 PTC1/LLWU_P6/RTC_CLKIN, 45 PTC2, 46 PTC3/LLWU_P7, 47 VSS hidden, 48 VDD hidden, 49 PTC4/LLWU_P8, 50 PTC5/LLWU_P9, 51 PTC6/LLWU_P10, 52 PTC7, 53 PTC8, 54 PTC9, 55 PTC10, 56 PTC11, 57 PTD0, 58 PTD1, 59 PTD2, 60 PTD3, 61 PTD4/LLWU_P14, 62 PTD5, 63 PTD6/LLWU_P15, 64 PTD7

## MKL27Z64VFM4
designator *  value MKL27Z64VFM4  Reference: U
ki_keywords: Kinetis KL27 ARM Cortex M0+; ki_description: Kinetis KL27 series, 48-MHz/32-bit ARM Cortex-M0+, 64 kB flash, 16 kB SRAM, USB FS Device (xtal-less)/OTG, QFN-32; ki_fp_filters: QFN*5x5mm*P0.5mm*; Footprint: Package_DFN_QFN:QFN-32-1EP_5x5mm_P0.5mm_EP3.45x3.45mm; Datasheet: http://www.nxp.com/docs/en/data-sheet/KL27P64M48SF2.pdf
pins: 1 PTE0, 2 VSS, 3 USB0_DP, 4 USB0_DM, 5 USB_VDD, 6 PTE16, 7 VDDA/VREFH, 8 VSSA/VREFL, 9 PTE30/VREF0, 10 PTA0, 11 PTA1, 12 PTA2, 13 PTA3, 14 PTA4, 15 VDD, 16 VSS hidden, 17 PTA18, 18 PTA19, 19 PTA20, 20 PTB0/LLWU_P5, 21 PTB1, 22 PTC1/LLWU_P6/RTC_CLKIN, 23 PTC2, 24 PTC3/LLWU_P7, 25 PTC4/LLWU_P8, 26 PTC5/LLWU_P9, 27 PTC6/LLWU_P10, 28 PTC7, 29 PTD4/LLWU_P14, 30 PTD5, 31 PTD6/LLWU_P15, 32 PTD7, 33 EPAD

## MKL27Z64VFT4
designator *  value MKL27Z64VFT4  Reference: U
ki_keywords: Kinetis KL27 ARM Cortex M0+; ki_description: Kinetis KL27 series, 48-MHz/32-bit ARM Cortex-M0+, 64 kB flash, 16 kB SRAM, USB FS Device (xtal-less)/OTG, QFN-48; ki_fp_filters: QFN*7x7mm*P0.5mm*; Footprint: Package_DFN_QFN:QFN-48-1EP_7x7mm_P0.5mm_EP5.15x5.15mm; Datasheet: http://www.nxp.com/docs/en/data-sheet/KL27P64M48SF2.pdf
pins: 1 VDD, 2 VSS, 3 USB0_DP, 4 USB0_DM, 5 USB_VDD, 6 PTE16, 7 PTE20, 8 PTE21, 9 VDDA, 10 VREFH/VREFO, 11 VREFL, 12 VSSA, 13 PTE29, 14 PTE30, 15 PTE24, 16 PTE25, 17 PTA0, 18 PTA1, 19 PTA2, 20 PTA3, 21 PTA4, 22 VDD hidden, 23 VSS hidden, 24 PTA18, 25 PTA19, 26 PTA20, 27 PTB0/LLWU_P5, 28 PTB1, 29 PTB2, 30 PTB3, 31 PTB16, 32 PTB17, 33 PTC0, 34 PTC1/LLWU_P6/RTC_CLKIN, 35 PTC2, 36 PTC3/LLWU_P7, 37 PTC4/LLWU_P8, 38 PTC5/LLWU_P9, 39 PTC6/LLWU_P10, 40 PTC7, 41 PTD0, 42 PTD1, 43 PTD2, 44 PTD3, 45 PTD4/LLWU_P14, 46 PTD5, 47 PTD6/LLWU_P15, 48 PTD7, 49 EPAD

## MKL27Z64VLH4
designator *  value MKL27Z64VLH4  Reference: U
ki_keywords: Kinetis KL27 ARM Cortex M0+; ki_description: Kinetis KL27 series, 48-MHz/32-bit ARM Cortex-M0+, 64 kB flash, 16 kB SRAM, USB FS Device (xtal-less)/OTG, LQFP-64; ki_fp_filters: LQFP*10x10mm*P0.5mm*; Footprint: Package_QFP:LQFP-64_10x10mm_P0.5mm; Datasheet: http://www.nxp.com/docs/en/data-sheet/KL27P64M48SF2.pdf
pins: 1 PTE0, 2 PTE1, 3 VDD, 4 VSS, 5 USB0_DP, 6 USB0_DM, 7 USB_VDD, 8 PTE16, 9 PTE20, 10 PTE21, 11 PTE22, 12 PTE23, 13 VDDA, 14 VREFH/VREFO, 15 VREFL, 16 VSSA, 17 PTE29, 18 PTE30, 19 PTE31, 20 PTE24, 21 PTE25, 22 PTA0, 23 PTA1, 24 PTA2, 25 PTA3, 26 PTA4, 27 PTA5, 28 PTA12, 29 PTA13, 30 VDD hidden, 31 VSS hidden, 32 PTA18, 33 PTA19, 34 PTA20, 35 PTB0/LLWU_P5, 36 PTB1, 37 PTB2, 38 PTB3, 39 PTB16, 40 PTB17, 41 PTB18, 42 PTB19, 43 PTC0, 44 PTC1/LLWU_P6/RTC_CLKIN, 45 PTC2, 46 PTC3/LLWU_P7, 47 VSS hidden, 48 VDD hidden, 49 PTC4/LLWU_P8, 50 PTC5/LLWU_P9, 51 PTC6/LLWU_P10, 52 PTC7, 53 PTC8, 54 PTC9, 55 PTC10, 56 PTC11, 57 PTD0, 58 PTD1, 59 PTD2, 60 PTD3, 61 PTD4/LLWU_P14, 62 PTD5, 63 PTD6/LLWU_P15, 64 PTD7

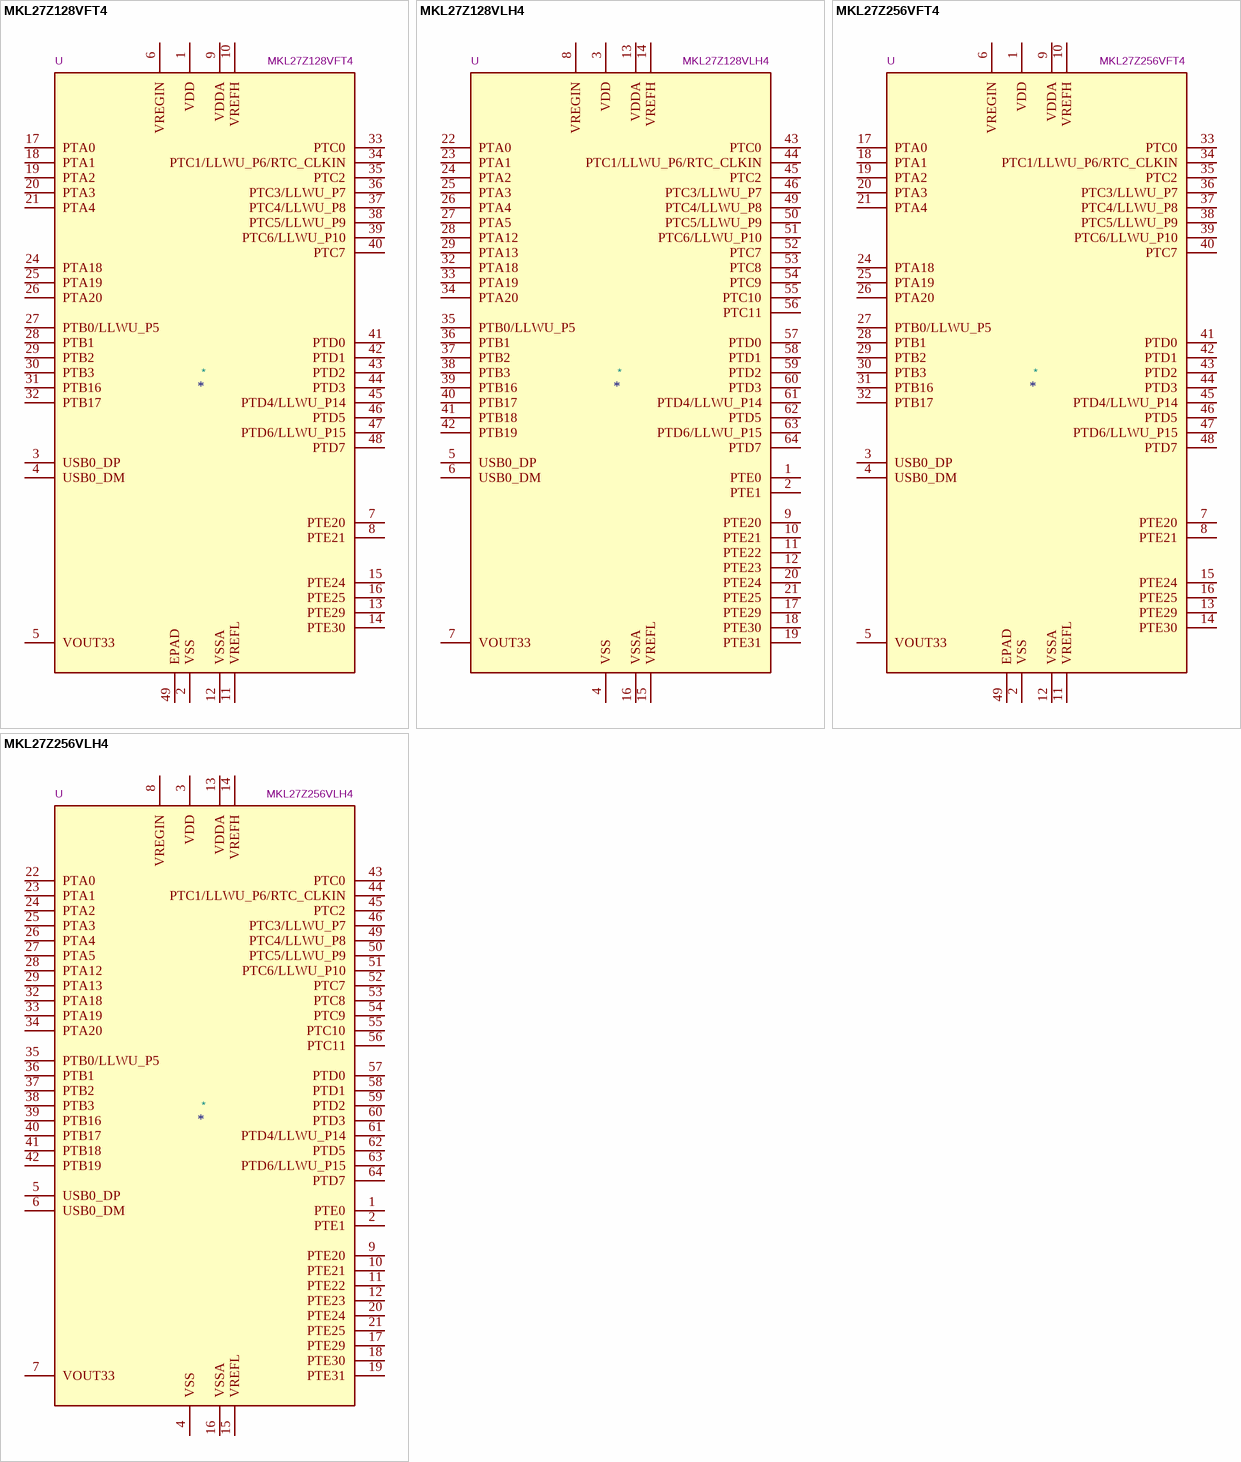
[diagram p25: symbols MKL27Z128VFT4 to MKL27Z256VLH4]

## MKL27Z128VFT4
designator *  value MKL27Z128VFT4  Reference: U
ki_keywords: Kinetis KL27 ARM Cortex M0+; ki_description: Kinetis KL27 series, 48-MHz/32-bit ARM Cortex-M0+, 128 kB flash, 32 kB SRAM, USB FS Device (xtal-less)/OTG, QFN-48; ki_fp_filters: QFN*7x7mm*P0.5mm*; Footprint: Package_DFN_QFN:QFN-48-1EP_7x7mm_P0.5mm_EP5.15x5.15mm; Datasheet: http://www.nxp.com/docs/en/data-sheet/KL27P64M48SF6.pdf
pins: 1 VDD, 2 VSS, 3 USB0_DP, 4 USB0_DM, 5 VOUT33, 6 VREGIN, 7 PTE20, 8 PTE21, 9 VDDA, 10 VREFH, 11 VREFL, 12 VSSA, 13 PTE29, 14 PTE30, 15 PTE24, 16 PTE25, 17 PTA0, 18 PTA1, 19 PTA2, 20 PTA3, 21 PTA4, 22 VDD hidden, 23 VSS hidden, 24 PTA18, 25 PTA19, 26 PTA20, 27 PTB0/LLWU_P5, 28 PTB1, 29 PTB2, 30 PTB3, 31 PTB16, 32 PTB17, 33 PTC0, 34 PTC1/LLWU_P6/RTC_CLKIN, 35 PTC2, 36 PTC3/LLWU_P7, 37 PTC4/LLWU_P8, 38 PTC5/LLWU_P9, 39 PTC6/LLWU_P10, 40 PTC7, 41 PTD0, 42 PTD1, 43 PTD2, 44 PTD3, 45 PTD4/LLWU_P14, 46 PTD5, 47 PTD6/LLWU_P15, 48 PTD7, 49 EPAD

## MKL27Z128VLH4
designator *  value MKL27Z128VLH4  Reference: U
ki_keywords: Kinetis KL27 ARM Cortex M0+; ki_description: Kinetis KL27 series, 48-MHz/32-bit ARM Cortex-M0+, 128 kB flash, 32 kB SRAM, USB FS Device (xtal-less)/OTG, LQFP-64; ki_fp_filters: LQFP*10x10mm*P0.5mm*; Footprint: Package_QFP:LQFP-64_10x10mm_P0.5mm; Datasheet: http://www.nxp.com/docs/en/data-sheet/KL27P64M48SF6.pdf
pins: 1 PTE0, 2 PTE1, 3 VDD, 4 VSS, 5 USB0_DP, 6 USB0_DM, 7 VOUT33, 8 VREGIN, 9 PTE20, 10 PTE21, 11 PTE22, 12 PTE23, 13 VDDA, 14 VREFH, 15 VREFL, 16 VSSA, 17 PTE29, 18 PTE30, 19 PTE31, 20 PTE24, 21 PTE25, 22 PTA0, 23 PTA1, 24 PTA2, 25 PTA3, 26 PTA4, 27 PTA5, 28 PTA12, 29 PTA13, 30 VDD hidden, 31 VSS hidden, 32 PTA18, 33 PTA19, 34 PTA20, 35 PTB0/LLWU_P5, 36 PTB1, 37 PTB2, 38 PTB3, 39 PTB16, 40 PTB17, 41 PTB18, 42 PTB19, 43 PTC0, 44 PTC1/LLWU_P6/RTC_CLKIN, 45 PTC2, 46 PTC3/LLWU_P7, 47 VSS hidden, 48 VDD hidden, 49 PTC4/LLWU_P8, 50 PTC5/LLWU_P9, 51 PTC6/LLWU_P10, 52 PTC7, 53 PTC8, 54 PTC9, 55 PTC10, 56 PTC11, 57 PTD0, 58 PTD1, 59 PTD2, 60 PTD3, 61 PTD4/LLWU_P14, 62 PTD5, 63 PTD6/LLWU_P15, 64 PTD7

## MKL27Z256VFT4
designator *  value MKL27Z256VFT4  Reference: U
ki_keywords: Kinetis KL27 ARM Cortex M0+; ki_description: Kinetis KL27 series, 48-MHz/32-bit ARM Cortex-M0+, 256 kB flash, 32 kB SRAM, USB FS Device (xtal-less)/OTG, QFN-48; ki_fp_filters: QFN*7x7mm*P0.5mm*; Footprint: Package_DFN_QFN:QFN-48-1EP_7x7mm_P0.5mm_EP5.15x5.15mm; Datasheet: http://www.nxp.com/docs/en/data-sheet/KL27P64M48SF6.pdf
pins: 1 VDD, 2 VSS, 3 USB0_DP, 4 USB0_DM, 5 VOUT33, 6 VREGIN, 7 PTE20, 8 PTE21, 9 VDDA, 10 VREFH, 11 VREFL, 12 VSSA, 13 PTE29, 14 PTE30, 15 PTE24, 16 PTE25, 17 PTA0, 18 PTA1, 19 PTA2, 20 PTA3, 21 PTA4, 22 VDD hidden, 23 VSS hidden, 24 PTA18, 25 PTA19, 26 PTA20, 27 PTB0/LLWU_P5, 28 PTB1, 29 PTB2, 30 PTB3, 31 PTB16, 32 PTB17, 33 PTC0, 34 PTC1/LLWU_P6/RTC_CLKIN, 35 PTC2, 36 PTC3/LLWU_P7, 37 PTC4/LLWU_P8, 38 PTC5/LLWU_P9, 39 PTC6/LLWU_P10, 40 PTC7, 41 PTD0, 42 PTD1, 43 PTD2, 44 PTD3, 45 PTD4/LLWU_P14, 46 PTD5, 47 PTD6/LLWU_P15, 48 PTD7, 49 EPAD

## MKL27Z256VLH4
designator *  value MKL27Z256VLH4  Reference: U
ki_keywords: Kinetis KL27 ARM Cortex M0+; ki_description: Kinetis KL27 series, 48-MHz/32-bit ARM Cortex-M0+, 256 kB flash, 32 kB SRAM, USB FS Device (xtal-less)/OTG, LQFP-64; ki_fp_filters: LQFP*10x10mm*P0.5mm*; Footprint: Package_QFP:LQFP-64_10x10mm_P0.5mm; Datasheet: http://www.nxp.com/docs/en/data-sheet/KL27P64M48SF6.pdf
pins: 1 PTE0, 2 PTE1, 3 VDD, 4 VSS, 5 USB0_DP, 6 USB0_DM, 7 VOUT33, 8 VREGIN, 9 PTE20, 10 PTE21, 11 PTE22, 12 PTE23, 13 VDDA, 14 VREFH, 15 VREFL, 16 VSSA, 17 PTE29, 18 PTE30, 19 PTE31, 20 PTE24, 21 PTE25, 22 PTA0, 23 PTA1, 24 PTA2, 25 PTA3, 26 PTA4, 27 PTA5, 28 PTA12, 29 PTA13, 30 VDD hidden, 31 VSS hidden, 32 PTA18, 33 PTA19, 34 PTA20, 35 PTB0/LLWU_P5, 36 PTB1, 37 PTB2, 38 PTB3, 39 PTB16, 40 PTB17, 41 PTB18, 42 PTB19, 43 PTC0, 44 PTC1/LLWU_P6/RTC_CLKIN, 45 PTC2, 46 PTC3/LLWU_P7, 47 VSS hidden, 48 VDD hidden, 49 PTC4/LLWU_P8, 50 PTC5/LLWU_P9, 51 PTC6/LLWU_P10, 52 PTC7, 53 PTC8, 54 PTC9, 55 PTC10, 56 PTC11, 57 PTD0, 58 PTD1, 59 PTD2, 60 PTD3, 61 PTD4/LLWU_P14, 62 PTD5, 63 PTD6/LLWU_P15, 64 PTD7

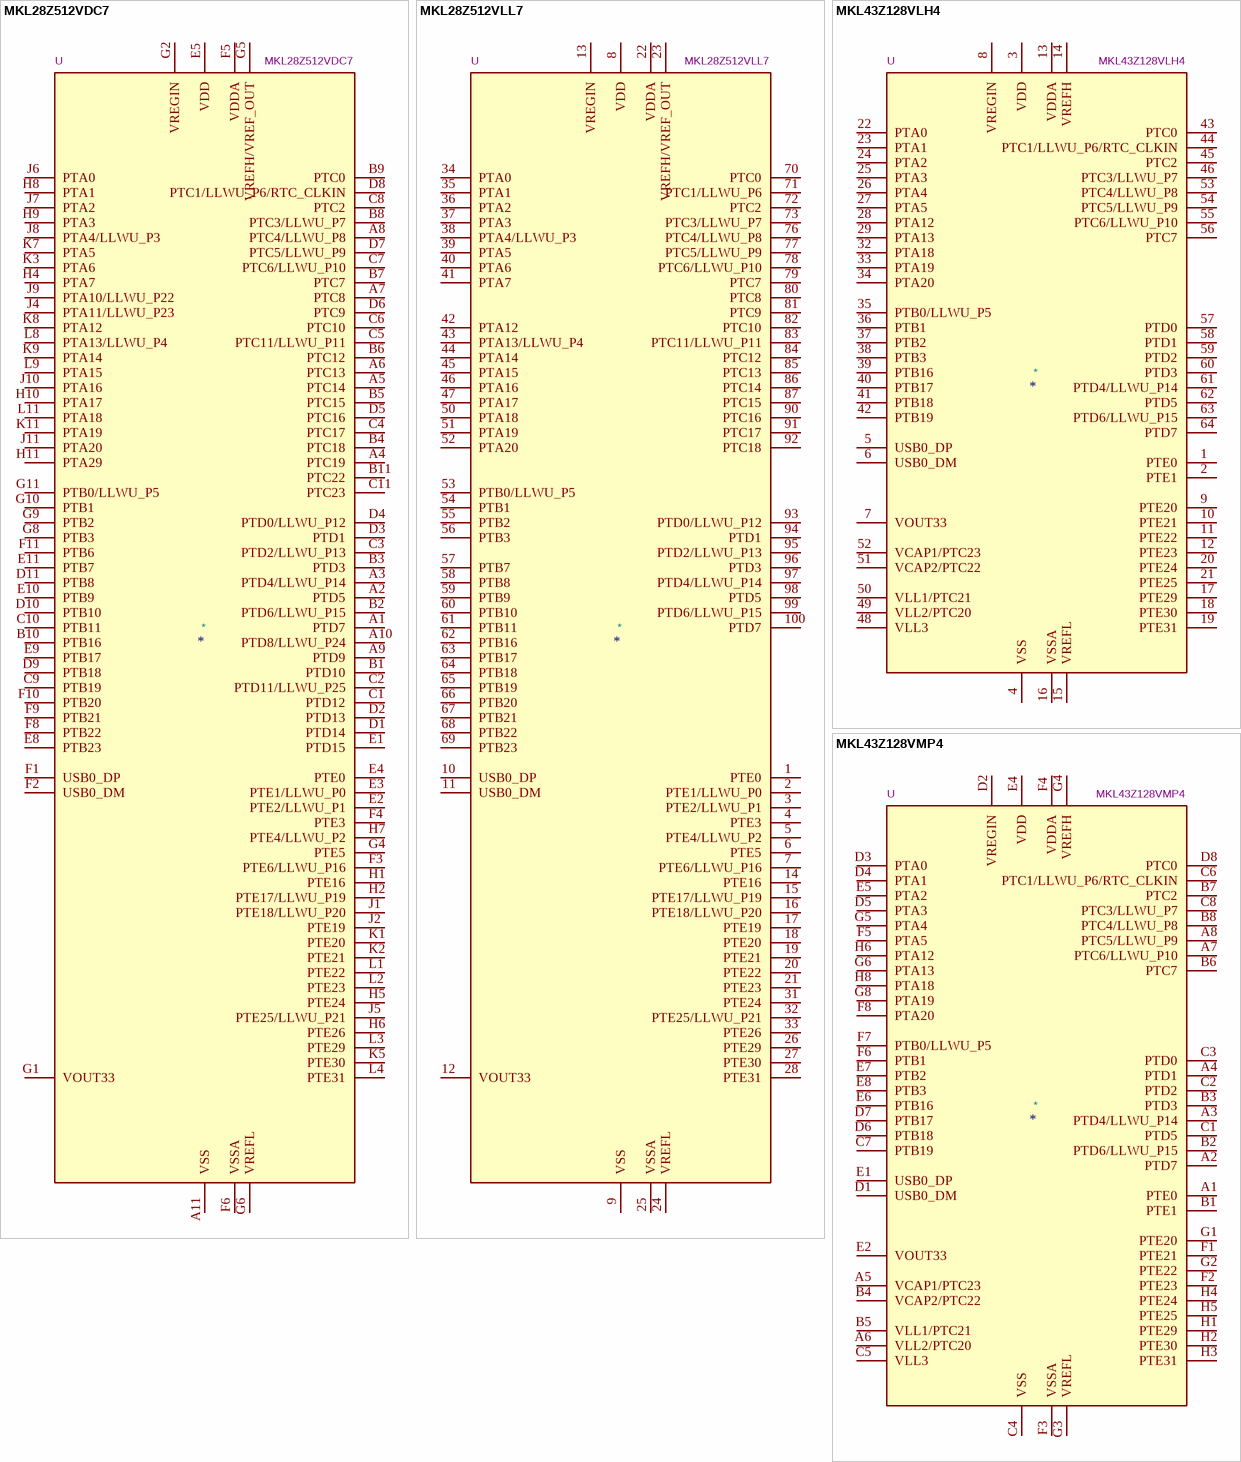
[diagram p26: symbols MKL28Z512VDC7 to MKL43Z128VMP4]

## MKL28Z512VDC7
designator *  value MKL28Z512VDC7  Reference: U
ki_keywords: Kinetis KL28 ARM Cortex M0+; ki_description: Kinetis KL28 series, 72...96-MHz/32-bit ARM Cortex-M0+, 512 kB flash, 128 kB SRAM, USB FS Device (xtal-less), XFBGA-121; ki_fp_filters: XFBGA*8x8mm*P0.65mm*; Footprint: Package_BGA:XFBGA-121_8x8mm_Layout11x11_P0.65mm; Datasheet: http://www.nxp.com/docs/en/data-sheet/MKL28Z512Vxx7.pdf
pins: A1 PTD7, A2 PTD5, A3 PTD4/LLWU_P14, A4 PTC19, A5 PTC14, A6 PTC13, A7 PTC8, A8 PTC4/LLWU_P8, A9 PTD9, A10 PTD8/LLWU_P24, A11 VSS, B1 PTD10, B2 PTD6/LLWU_P15, B3 PTD3, B4 PTC18, B5 PTC15, B6 PTC12, B7 PTC7, B8 PTC3/LLWU_P7, B9 PTC0, B10 PTB16, B11 PTC22, C1 PTD12, C2 PTD11/LLWU_P25, C3 PTD2/LLWU_P13, C4 PTC17, C5 PTC11/LLWU_P11, C6 PTC10, C7 PTC6/LLWU_P10, C8 PTC2, C9 PTB19, C10 PTB11, C11 PTC23, D1 PTD14, D2 PTD13, D3 PTD1, D4 PTD0/LLWU_P12, D5 PTC16, D6 PTC9, D7 PTC5/LLWU_P9, D8 PTC1/LLWU_P6/RTC_CLKIN, D9 PTB18, D10 PTB10, D11 PTB8, E1 PTD15, E2 PTE2/LLWU_P1, E3 PTE1/LLWU_P0, E4 PTE0, E5 VDD, E6 VDD hidden, E7 VDD hidden, E8 PTB23, E9 PTB17, E10 PTB9, E11 PTB7, F1 USB0_DP, F2 USB0_DM, F3 PTE6/LLWU_P16, F4 PTE3, F5 VDDA, F6 VSSA, F7 VSS hidden, F8 PTB22, F9 PTB21, F10 PTB20, F11 PTB6, G1 VOUT33, G2 VREGIN, G3 VSS hidden, G4 PTE5, G5 VREFH/VREF_OUT, G6 VREFL, G7 VSS hidden, G8 PTB3, G9 PTB2, G10 PTB1, G11 PTB0/LLWU_P5, H1 PTE16, H2 PTE17/LLWU_P19, H3 NC hidden, H4 PTA7, H5 PTE24, H6 PTE26, H7 PTE4/LLWU_P2, H8 PTA1, H9 PTA3, H10 PTA17, H11 PTA29, J1 PTE18/LLWU_P20, J2 PTE19, J3 NC hidden, J4 PTA11/LLWU_P23, J5 PTE25/LLWU_P21, J6 PTA0, J7 PTA2, J8 PTA4/LLWU_P3, J9 PTA10/LLWU_P22, J10 PTA16, J11 PTA20, K1 PTE20, K2 PTE21, K3 PTA6, K4 NC hidden, K5 PTE30, K6 VDD hidden, K7 PTA5, K8 PTA12, K9 PTA14, K10 VSS hidden, K11 PTA19, L1 PTE22, L2 PTE23, L3 PTE29, L4 PTE31, L5 VSS hidden, L6 VSS hidden, L7 NC hidden, L8 PTA13/LLWU_P4, L9 PTA15, L10 VDD hidden, L11 PTA18

## MKL28Z512VLL7
designator *  value MKL28Z512VLL7  Reference: U
ki_keywords: Kinetis KL28 ARM Cortex M0+; ki_description: Kinetis KL28 series, 72...96-MHz/32-bit ARM Cortex-M0+, 512 kB flash, 128 kB SRAM, USB FS Device (xtal-less), LQFP-100; ki_fp_filters: LQFP*14x14mm*P0.5mm*; Footprint: Package_QFP:LQFP-100_14x14mm_P0.5mm; Datasheet: http://www.nxp.com/docs/en/data-sheet/MKL28Z512Vxx7.pdf
pins: 1 PTE0, 2 PTE1/LLWU_P0, 3 PTE2/LLWU_P1, 4 PTE3, 5 PTE4/LLWU_P2, 6 PTE5, 7 PTE6/LLWU_P16, 8 VDD, 9 VSS, 10 USB0_DP, 11 USB0_DM, 12 VOUT33, 13 VREGIN, 14 PTE16, 15 PTE17/LLWU_P19, 16 PTE18/LLWU_P20, 17 PTE19, 18 PTE20, 19 PTE21, 20 PTE22, 21 PTE23, 22 VDDA, 23 VREFH/VREF_OUT, 24 VREFL, 25 VSSA, 26 PTE29, 27 PTE30, 28 PTE31, 29 VSS hidden, 30 VDD hidden, 31 PTE24, 32 PTE25/LLWU_P21, 33 PTE26, 34 PTA0, 35 PTA1, 36 PTA2, 37 PTA3, 38 PTA4/LLWU_P3, 39 PTA5, 40 PTA6, 41 PTA7, 42 PTA12, 43 PTA13/LLWU_P4, 44 PTA14, 45 PTA15, 46 PTA16, 47 PTA17, 48 VDD hidden, 49 VSS hidden, 50 PTA18, 51 PTA19, 52 PTA20, 53 PTB0/LLWU_P5, 54 PTB1, 55 PTB2, 56 PTB3, 57 PTB7, 58 PTB8, 59 PTB9, 60 PTB10, 61 PTB11, 62 PTB16, 63 PTB17, 64 PTB18, 65 PTB19, 66 PTB20, 67 PTB21, 68 PTB22, 69 PTB23, 70 PTC0, 71 PTC1/LLWU_P6, 72 PTC2, 73 PTC3/LLWU_P7, 74 VSS hidden, 75 VDD hidden, 76 PTC4/LLWU_P8, 77 PTC5/LLWU_P9, 78 PTC6/LLWU_P10, 79 PTC7, 80 PTC8, 81 PTC9, 82 PTC10, 83 PTC11/LLWU_P11, 84 PTC12, 85 PTC13, 86 PTC14, 87 PTC15, 88 VSS hidden, 89 VDD hidden, 90 PTC16, 91 PTC17, 92 PTC18, 93 PTD0/LLWU_P12, 94 PTD1, 95 PTD2/LLWU_P13, 96 PTD3, 97 PTD4/LLWU_P14, 98 PTD5, 99 PTD6/LLWU_P15, 100 PTD7

## MKL43Z128VLH4
designator *  value MKL43Z128VLH4  Reference: U
ki_keywords: Kinetis KL43 ARM Cortex M0+; ki_description: Kinetis KL43 series, 48-MHz/32-bit ARM Cortex-M0+, 128 kB flash, 16 kB SRAM, USB FS Device (xtal-less), Segment LCD, FlexIO, LQFP-64; ki_fp_filters: LQFP*10x10mm*P0.5mm*; Footprint: Package_QFP:LQFP-64_10x10mm_P0.5mm; Datasheet: http://www.nxp.com/docs/en/data-sheet/KL43P64M48SF6.pdf
pins: 1 PTE0, 2 PTE1, 3 VDD, 4 VSS, 5 USB0_DP, 6 USB0_DM, 7 VOUT33, 8 VREGIN, 9 PTE20, 10 PTE21, 11 PTE22, 12 PTE23, 13 VDDA, 14 VREFH, 15 VREFL, 16 VSSA, 17 PTE29, 18 PTE30, 19 PTE31, 20 PTE24, 21 PTE25, 22 PTA0, 23 PTA1, 24 PTA2, 25 PTA3, 26 PTA4, 27 PTA5, 28 PTA12, 29 PTA13, 30 VDD hidden, 31 VSS hidden, 32 PTA18, 33 PTA19, 34 PTA20, 35 PTB0/LLWU_P5, 36 PTB1, 37 PTB2, 38 PTB3, 39 PTB16, 40 PTB17, 41 PTB18, 42 PTB19, 43 PTC0, 44 PTC1/LLWU_P6/RTC_CLKIN, 45 PTC2, 46 PTC3/LLWU_P7, 47 VSS hidden, 48 VLL3, 49 VLL2/PTC20, 50 VLL1/PTC21, 51 VCAP2/PTC22, 52 VCAP1/PTC23, 53 PTC4/LLWU_P8, 54 PTC5/LLWU_P9, 55 PTC6/LLWU_P10, 56 PTC7, 57 PTD0, 58 PTD1, 59 PTD2, 60 PTD3, 61 PTD4/LLWU_P14, 62 PTD5, 63 PTD6/LLWU_P15, 64 PTD7

## MKL43Z128VMP4
designator *  value MKL43Z128VMP4  Reference: U
ki_keywords: Kinetis KL43 ARM Cortex M0+; ki_description: Kinetis KL43 series, 48-MHz/32-bit ARM Cortex-M0+, 128 kB flash, 16 kB SRAM, USB FS Device (xtal-less), Segment LCD, FlexIO, MAPBGA-64; ki_fp_filters: XFBGA*5.0x5.0mm*P0.5mm*; Footprint: Package_BGA:XFBGA-64_5.0x5.0mm_Layout8x8_P0.5mm; Datasheet: http://www.nxp.com/docs/en/data-sheet/KL43P64M48SF6.pdf
pins: A1 PTE0, A2 PTD7, A3 PTD4/LLWU_P14, A4 PTD1, A5 VCAP1/PTC23, A6 VLL2/PTC20, A7 PTC6/LLWU_P10, A8 PTC5/LLWU_P9, B1 PTE1, B2 PTD6/LLWU_P15, B3 PTD3, B4 VCAP2/PTC22, B5 VLL1/PTC21, B6 PTC7, B7 PTC2, B8 PTC4/LLWU_P8, C1 PTD5, C2 PTD2, C3 PTD0, C4 VSS, C5 VLL3, C6 PTC1/LLWU_P6/RTC_CLKIN, C7 PTB19, C8 PTC3/LLWU_P7, D1 USB0_DM, D2 VREGIN, D3 PTA0, D4 PTA1, D5 PTA3, D6 PTB18, D7 PTB17, D8 PTC0, E1 USB0_DP, E2 VOUT33, E3 VSS hidden, E4 VDD, E5 PTA2, E6 PTB16, E7 PTB2, E8 PTB3, F1 PTE21, F2 PTE23, F3 VSSA, F4 VDDA, F5 PTA5, F6 PTB1, F7 PTB0/LLWU_P5, F8 PTA20, G1 PTE20, G2 PTE22, G3 VREFL, G4 VREFH, G5 PTA4, G6 PTA13, G7 VDD hidden, G8 PTA19, H1 PTE29, H2 PTE30, H3 PTE31, H4 PTE24, H5 PTE25, H6 PTA12, H7 VSS hidden, H8 PTA18

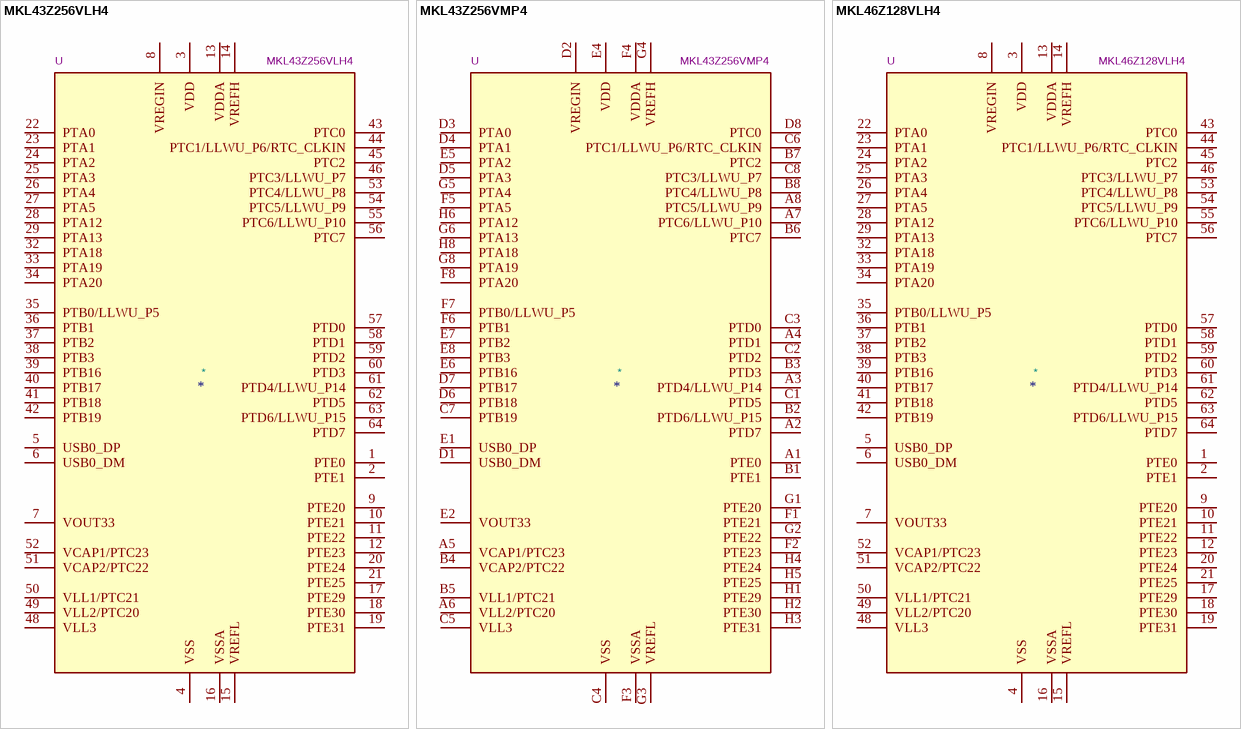
[diagram p27: symbols MKL43Z256VLH4 to MKL46Z128VLH4]

## MKL43Z256VLH4
designator *  value MKL43Z256VLH4  Reference: U
ki_keywords: Kinetis KL43 ARM Cortex M0+; ki_description: Kinetis KL43 series, 48-MHz/32-bit ARM Cortex-M0+, 256 kB flash, 32 kB SRAM, USB FS Device (xtal-less), Segment LCD, FlexIO, LQFP-64; ki_fp_filters: LQFP*10x10mm*P0.5mm*; Footprint: Package_QFP:LQFP-64_10x10mm_P0.5mm; Datasheet: http://www.nxp.com/docs/en/data-sheet/KL43P64M48SF6.pdf
pins: 1 PTE0, 2 PTE1, 3 VDD, 4 VSS, 5 USB0_DP, 6 USB0_DM, 7 VOUT33, 8 VREGIN, 9 PTE20, 10 PTE21, 11 PTE22, 12 PTE23, 13 VDDA, 14 VREFH, 15 VREFL, 16 VSSA, 17 PTE29, 18 PTE30, 19 PTE31, 20 PTE24, 21 PTE25, 22 PTA0, 23 PTA1, 24 PTA2, 25 PTA3, 26 PTA4, 27 PTA5, 28 PTA12, 29 PTA13, 30 VDD hidden, 31 VSS hidden, 32 PTA18, 33 PTA19, 34 PTA20, 35 PTB0/LLWU_P5, 36 PTB1, 37 PTB2, 38 PTB3, 39 PTB16, 40 PTB17, 41 PTB18, 42 PTB19, 43 PTC0, 44 PTC1/LLWU_P6/RTC_CLKIN, 45 PTC2, 46 PTC3/LLWU_P7, 47 VSS hidden, 48 VLL3, 49 VLL2/PTC20, 50 VLL1/PTC21, 51 VCAP2/PTC22, 52 VCAP1/PTC23, 53 PTC4/LLWU_P8, 54 PTC5/LLWU_P9, 55 PTC6/LLWU_P10, 56 PTC7, 57 PTD0, 58 PTD1, 59 PTD2, 60 PTD3, 61 PTD4/LLWU_P14, 62 PTD5, 63 PTD6/LLWU_P15, 64 PTD7

## MKL43Z256VMP4
designator *  value MKL43Z256VMP4  Reference: U
ki_keywords: Kinetis KL43 ARM Cortex M0+; ki_description: Kinetis KL43 series, 48-MHz/32-bit ARM Cortex-M0+, 256 kB flash, 32 kB SRAM, USB FS Device (xtal-less), Segment LCD, FlexIO, MAPBGA-64; ki_fp_filters: XFBGA*5.0x5.0mm*P0.5mm*; Footprint: Package_BGA:XFBGA-64_5.0x5.0mm_Layout8x8_P0.5mm; Datasheet: http://www.nxp.com/docs/en/data-sheet/KL43P64M48SF6.pdf
pins: A1 PTE0, A2 PTD7, A3 PTD4/LLWU_P14, A4 PTD1, A5 VCAP1/PTC23, A6 VLL2/PTC20, A7 PTC6/LLWU_P10, A8 PTC5/LLWU_P9, B1 PTE1, B2 PTD6/LLWU_P15, B3 PTD3, B4 VCAP2/PTC22, B5 VLL1/PTC21, B6 PTC7, B7 PTC2, B8 PTC4/LLWU_P8, C1 PTD5, C2 PTD2, C3 PTD0, C4 VSS, C5 VLL3, C6 PTC1/LLWU_P6/RTC_CLKIN, C7 PTB19, C8 PTC3/LLWU_P7, D1 USB0_DM, D2 VREGIN, D3 PTA0, D4 PTA1, D5 PTA3, D6 PTB18, D7 PTB17, D8 PTC0, E1 USB0_DP, E2 VOUT33, E3 VSS hidden, E4 VDD, E5 PTA2, E6 PTB16, E7 PTB2, E8 PTB3, F1 PTE21, F2 PTE23, F3 VSSA, F4 VDDA, F5 PTA5, F6 PTB1, F7 PTB0/LLWU_P5, F8 PTA20, G1 PTE20, G2 PTE22, G3 VREFL, G4 VREFH, G5 PTA4, G6 PTA13, G7 VDD hidden, G8 PTA19, H1 PTE29, H2 PTE30, H3 PTE31, H4 PTE24, H5 PTE25, H6 PTA12, H7 VSS hidden, H8 PTA18

## MKL46Z128VLH4
designator *  value MKL46Z128VLH4  Reference: U
ki_keywords: Kinetis KL46 ARM Cortex M0+; ki_description: Kinetis KL46 series, 48-MHz/32-bit ARM Cortex-M0+, 128 kB flash, 16 kB SRAM, USB FS Device/OTG, Segment LCD, TSI, LQFP-64; ki_fp_filters: LQFP*10x10mm*P0.5mm*; Footprint: Package_QFP:LQFP-64_10x10mm_P0.5mm; Datasheet: http://www.nxp.com/docs/en/data-sheet/KL46P121M48SF4.pdf
pins: 1 PTE0, 2 PTE1, 3 VDD, 4 VSS, 5 USB0_DP, 6 USB0_DM, 7 VOUT33, 8 VREGIN, 9 PTE20, 10 PTE21, 11 PTE22, 12 PTE23, 13 VDDA, 14 VREFH, 15 VREFL, 16 VSSA, 17 PTE29, 18 PTE30, 19 PTE31, 20 PTE24, 21 PTE25, 22 PTA0, 23 PTA1, 24 PTA2, 25 PTA3, 26 PTA4, 27 PTA5, 28 PTA12, 29 PTA13, 30 VDD hidden, 31 VSS hidden, 32 PTA18, 33 PTA19, 34 PTA20, 35 PTB0/LLWU_P5, 36 PTB1, 37 PTB2, 38 PTB3, 39 PTB16, 40 PTB17, 41 PTB18, 42 PTB19, 43 PTC0, 44 PTC1/LLWU_P6/RTC_CLKIN, 45 PTC2, 46 PTC3/LLWU_P7, 47 VSS hidden, 48 VLL3, 49 VLL2/PTC20, 50 VLL1/PTC21, 51 VCAP2/PTC22, 52 VCAP1/PTC23, 53 PTC4/LLWU_P8, 54 PTC5/LLWU_P9, 55 PTC6/LLWU_P10, 56 PTC7, 57 PTD0, 58 PTD1, 59 PTD2, 60 PTD3, 61 PTD4/LLWU_P14, 62 PTD5, 63 PTD6/LLWU_P15, 64 PTD7

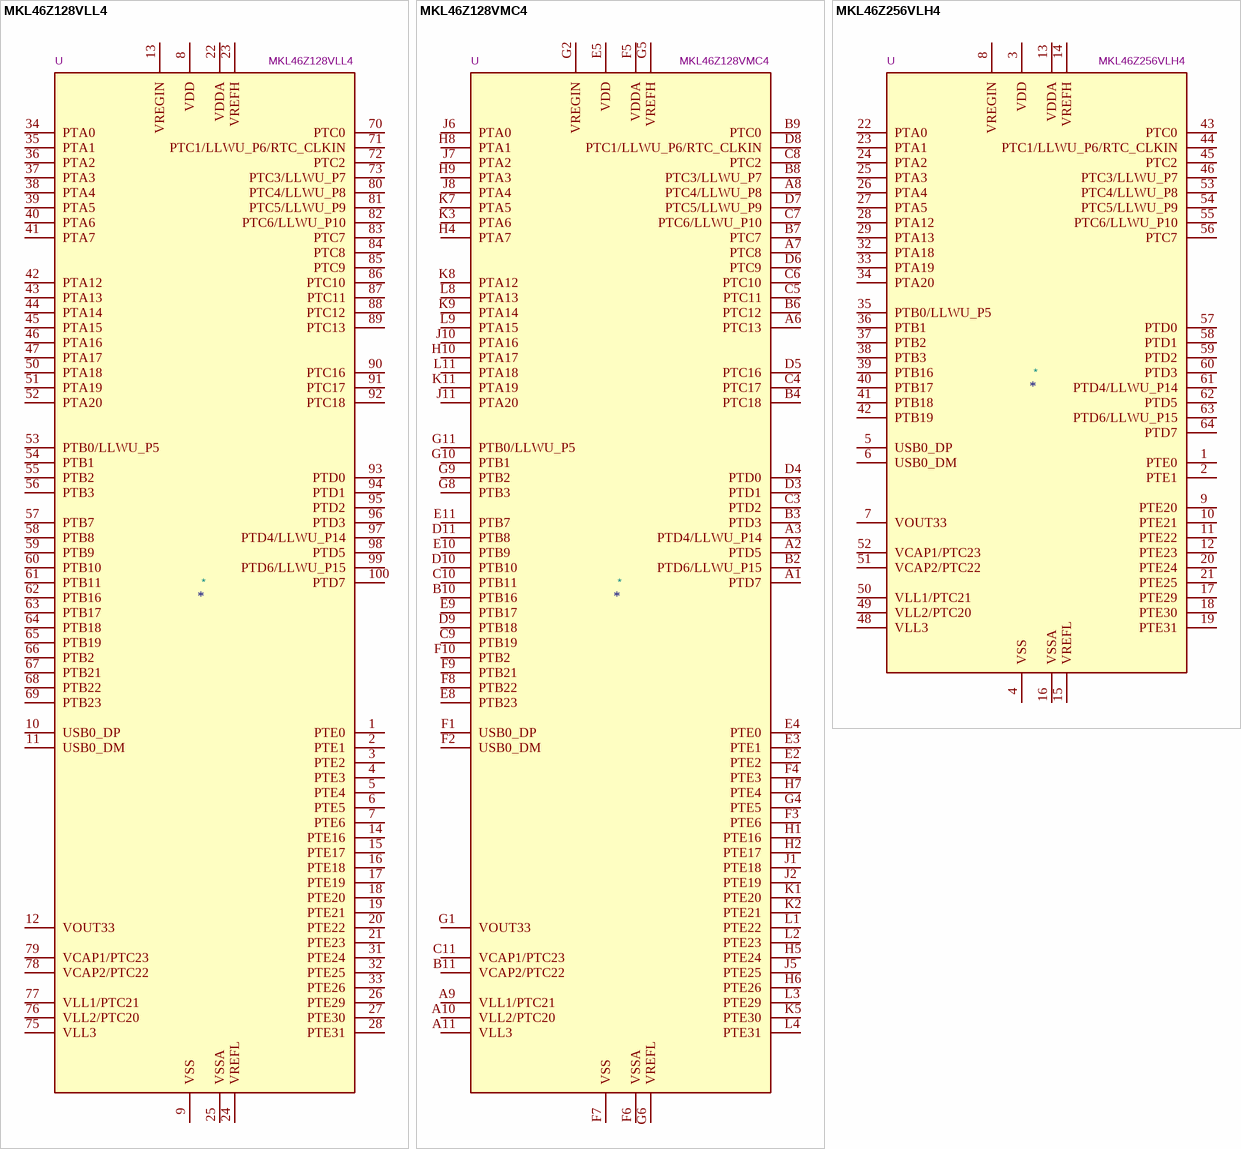
[diagram p28: symbols MKL46Z128VLL4 to MKL46Z256VLH4]

## MKL46Z128VLL4
designator *  value MKL46Z128VLL4  Reference: U
ki_keywords: Kinetis KL46 ARM Cortex M0+; ki_description: Kinetis KL46 series, 48-MHz/32-bit ARM Cortex-M0+, 128 kB flash, 16 kB SRAM, USB FS Device/OTG, Segment LCD, TSI, LQFP-100; ki_fp_filters: LQFP*14x14mm*P0.5mm*; Footprint: Package_QFP:LQFP-100_14x14mm_P0.5mm; Datasheet: http://www.nxp.com/docs/en/data-sheet/KL46P121M48SF4.pdf
pins: 1 PTE0, 2 PTE1, 3 PTE2, 4 PTE3, 5 PTE4, 6 PTE5, 7 PTE6, 8 VDD, 9 VSS, 10 USB0_DP, 11 USB0_DM, 12 VOUT33, 13 VREGIN, 14 PTE16, 15 PTE17, 16 PTE18, 17 PTE19, 18 PTE20, 19 PTE21, 20 PTE22, 21 PTE23, 22 VDDA, 23 VREFH, 24 VREFL, 25 VSSA, 26 PTE29, 27 PTE30, 28 PTE31, 29 VSS hidden, 30 VDD hidden, 31 PTE24, 32 PTE25, 33 PTE26, 34 PTA0, 35 PTA1, 36 PTA2, 37 PTA3, 38 PTA4, 39 PTA5, 40 PTA6, 41 PTA7, 42 PTA12, 43 PTA13, 44 PTA14, 45 PTA15, 46 PTA16, 47 PTA17, 48 VDD hidden, 49 VSS hidden, 50 PTA18, 51 PTA19, 52 PTA20, 53 PTB0/LLWU_P5, 54 PTB1, 55 PTB2, 56 PTB3, 57 PTB7, 58 PTB8, 59 PTB9, 60 PTB10, 61 PTB11, 62 PTB16, 63 PTB17, 64 PTB18, 65 PTB19, 66 PTB2, 67 PTB21, 68 PTB22, 69 PTB23, 70 PTC0, 71 PTC1/LLWU_P6/RTC_CLKIN, 72 PTC2, 73 PTC3/LLWU_P7, 74 VSS hidden, 75 VLL3, 76 VLL2/PTC20, 77 VLL1/PTC21, 78 VCAP2/PTC22, 79 VCAP1/PTC23, 80 PTC4/LLWU_P8, 81 PTC5/LLWU_P9, 82 PTC6/LLWU_P10, 83 PTC7, 84 PTC8, 85 PTC9, 86 PTC10, 87 PTC11, 88 PTC12, 89 PTC13, 90 PTC16, 91 PTC17, 92 PTC18, 93 PTD0, 94 PTD1, 95 PTD2, 96 PTD3, 97 PTD4/LLWU_P14, 98 PTD5, 99 PTD6/LLWU_P15, 100 PTD7

## MKL46Z128VMC4
designator *  value MKL46Z128VMC4  Reference: U
ki_keywords: Kinetis KL46 ARM Cortex M0+; ki_description: Kinetis KL46 series, 48-MHz/32-bit ARM Cortex-M0+, 128 kB flash, 16 kB SRAM, USB FS Device/OTG, Segment LCD, TSI, MAPBGA-121; ki_fp_filters: XFBGA*8x8mm*P0.65mm*; Footprint: Package_BGA:XFBGA-121_8x8mm_Layout11x11_P0.65mm; Datasheet: http://www.nxp.com/docs/en/data-sheet/KL46P121M48SF4.pdf
pins: A1 PTD7, A2 PTD5, A3 PTD4/LLWU_P14, A4 NC hidden, A5 NC hidden, A6 PTC13, A7 PTC8, A8 PTC4/LLWU_P8, A9 VLL1/PTC21, A10 VLL2/PTC20, A11 VLL3, B1 NC hidden, B2 PTD6/LLWU_P15, B3 PTD3, B4 PTC18, B5 NC hidden, B6 PTC12, B7 PTC7, B8 PTC3/LLWU_P7, B9 PTC0, B10 PTB16, B11 VCAP2/PTC22, C1 NC hidden, C2 NC hidden, C3 PTD2, C4 PTC17, C5 PTC11, C6 PTC10, C7 PTC6/LLWU_P10, C8 PTC2, C9 PTB19, C10 PTB11, C11 VCAP1/PTC23, D1 NC hidden, D2 NC hidden, D3 PTD1, D4 PTD0, D5 PTC16, D6 PTC9, D7 PTC5/LLWU_P9, D8 PTC1/LLWU_P6/RTC_CLKIN, D9 PTB18, D10 PTB10, D11 PTB8, E1 NC hidden, E2 PTE2, E3 PTE1, E4 PTE0, E5 VDD, E6 VDD hidden, E7 VDD hidden, E8 PTB23, E9 PTB17, E10 PTB9, E11 PTB7, F1 USB0_DP, F2 USB0_DM, F3 PTE6, F4 PTE3, F5 VDDA, F6 VSSA, F7 VSS, F8 PTB22, F9 PTB21, F10 PTB2, F11 NC hidden, G1 VOUT33, G2 VREGIN, G3 VSS hidden, G4 PTE5, G5 VREFH, G6 VREFL, G7 VSS hidden, G8 PTB3, G9 PTB2, G10 PTB1, G11 PTB0/LLWU_P5, H1 PTE16, H2 PTE17, H3 NC hidden, H4 PTA7, H5 PTE24, H6 PTE26, H7 PTE4, H8 PTA1, H9 PTA3, H10 PTA17, H11 NC hidden, J1 PTE18, J2 PTE19, J3 NC hidden, J4 NC hidden, J5 PTE25, J6 PTA0, J7 PTA2, J8 PTA4, J9 NC hidden, J10 PTA16, J11 PTA20, K1 PTE20, K2 PTE21, K3 PTA6, K4 NC hidden, K5 PTE30, K6 VDD hidden, K7 PTA5, K8 PTA12, K9 PTA14, K10 VSS hidden, K11 PTA19, L1 PTE22, L2 PTE23, L3 PTE29, L4 PTE31, L5 VSS hidden, L6 VSS hidden, L7 NC hidden, L8 PTA13, L9 PTA15, L10 VDD hidden, L11 PTA18

## MKL46Z256VLH4
designator *  value MKL46Z256VLH4  Reference: U
ki_keywords: Kinetis KL46 ARM Cortex M0+; ki_description: Kinetis KL46 series, 48-MHz/32-bit ARM Cortex-M0+, 256 kB flash, 32 kB SRAM, USB FS Device/OTG, Segment LCD, TSI, LQFP-64; ki_fp_filters: LQFP*10x10mm*P0.5mm*; Footprint: Package_QFP:LQFP-64_10x10mm_P0.5mm; Datasheet: http://www.nxp.com/docs/en/data-sheet/KL46P121M48SF4.pdf
pins: 1 PTE0, 2 PTE1, 3 VDD, 4 VSS, 5 USB0_DP, 6 USB0_DM, 7 VOUT33, 8 VREGIN, 9 PTE20, 10 PTE21, 11 PTE22, 12 PTE23, 13 VDDA, 14 VREFH, 15 VREFL, 16 VSSA, 17 PTE29, 18 PTE30, 19 PTE31, 20 PTE24, 21 PTE25, 22 PTA0, 23 PTA1, 24 PTA2, 25 PTA3, 26 PTA4, 27 PTA5, 28 PTA12, 29 PTA13, 30 VDD hidden, 31 VSS hidden, 32 PTA18, 33 PTA19, 34 PTA20, 35 PTB0/LLWU_P5, 36 PTB1, 37 PTB2, 38 PTB3, 39 PTB16, 40 PTB17, 41 PTB18, 42 PTB19, 43 PTC0, 44 PTC1/LLWU_P6/RTC_CLKIN, 45 PTC2, 46 PTC3/LLWU_P7, 47 VSS hidden, 48 VLL3, 49 VLL2/PTC20, 50 VLL1/PTC21, 51 VCAP2/PTC22, 52 VCAP1/PTC23, 53 PTC4/LLWU_P8, 54 PTC5/LLWU_P9, 55 PTC6/LLWU_P10, 56 PTC7, 57 PTD0, 58 PTD1, 59 PTD2, 60 PTD3, 61 PTD4/LLWU_P14, 62 PTD5, 63 PTD6/LLWU_P15, 64 PTD7

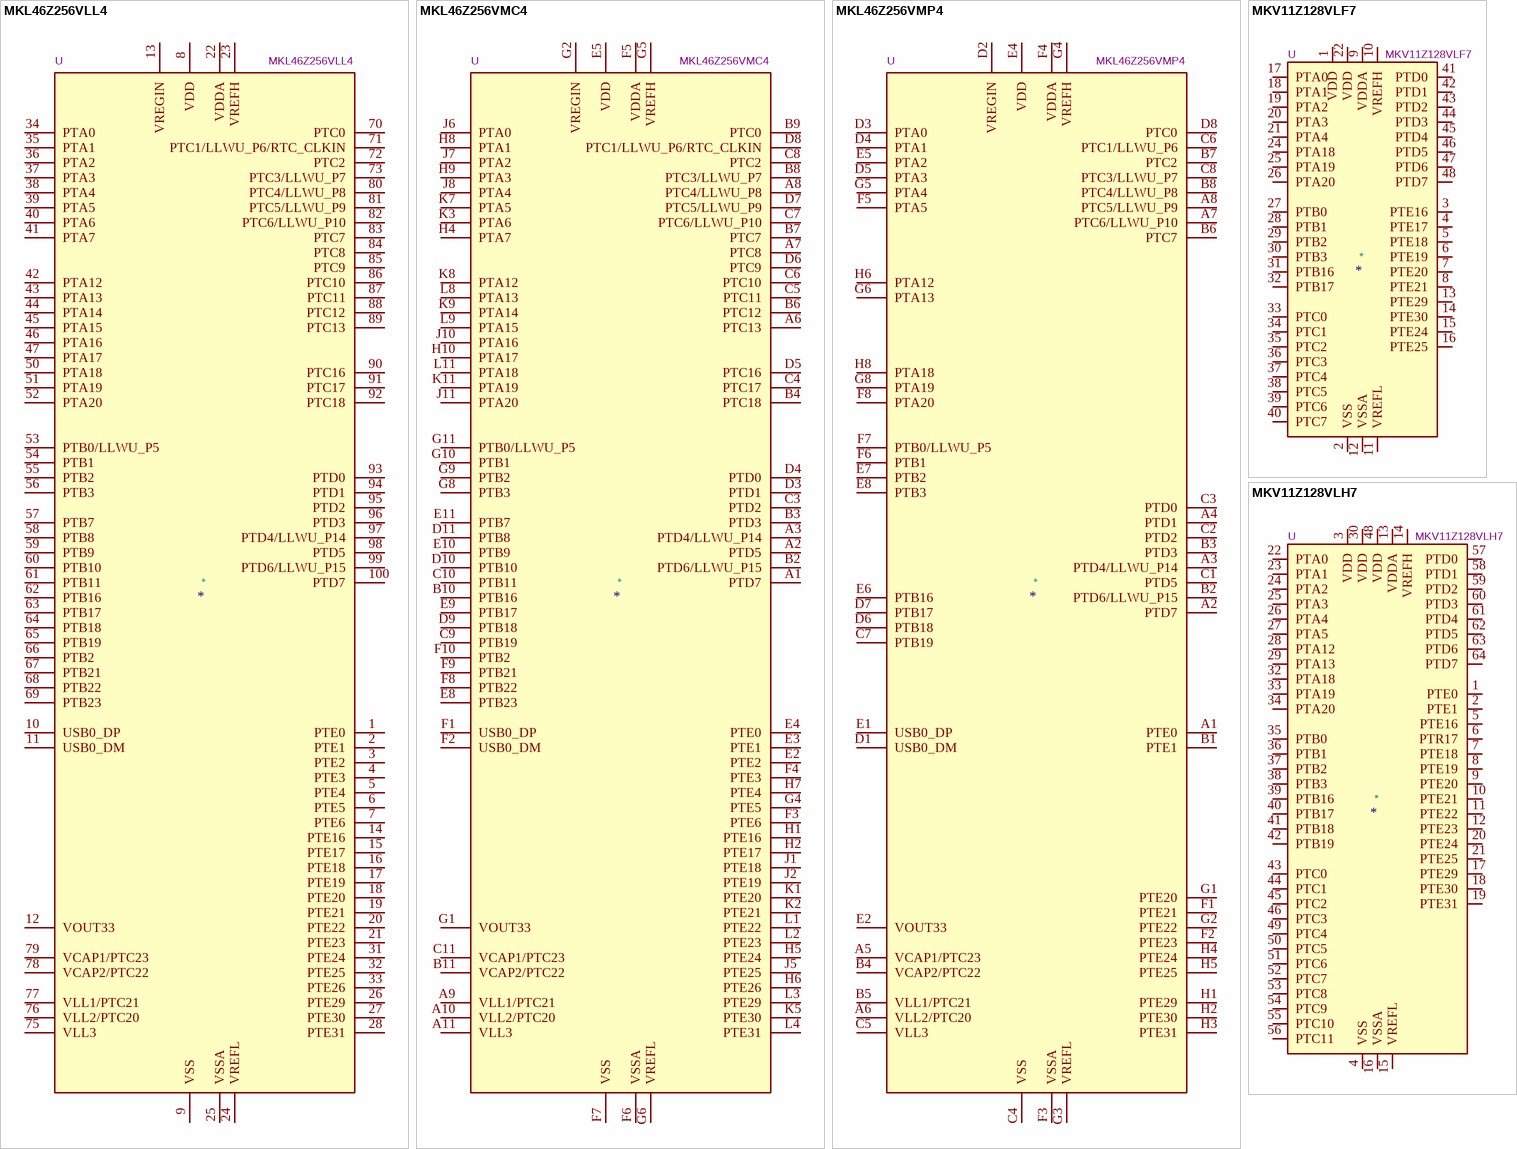
[diagram p29: symbols MKL46Z256VLL4 to MKV11Z128VLH7]

## MKL46Z256VLL4
designator *  value MKL46Z256VLL4  Reference: U
ki_keywords: Kinetis KL46 ARM Cortex M0+; ki_description: Kinetis KL46 series, 48-MHz/32-bit ARM Cortex-M0+, 256 kB flash, 32 kB SRAM, USB FS Device/OTG, Segment LCD, TSI, LQFP-100; ki_fp_filters: LQFP*14x14mm*P0.5mm*; Footprint: Package_QFP:LQFP-100_14x14mm_P0.5mm; Datasheet: http://www.nxp.com/docs/en/data-sheet/KL46P121M48SF4.pdf
pins: 1 PTE0, 2 PTE1, 3 PTE2, 4 PTE3, 5 PTE4, 6 PTE5, 7 PTE6, 8 VDD, 9 VSS, 10 USB0_DP, 11 USB0_DM, 12 VOUT33, 13 VREGIN, 14 PTE16, 15 PTE17, 16 PTE18, 17 PTE19, 18 PTE20, 19 PTE21, 20 PTE22, 21 PTE23, 22 VDDA, 23 VREFH, 24 VREFL, 25 VSSA, 26 PTE29, 27 PTE30, 28 PTE31, 29 VSS hidden, 30 VDD hidden, 31 PTE24, 32 PTE25, 33 PTE26, 34 PTA0, 35 PTA1, 36 PTA2, 37 PTA3, 38 PTA4, 39 PTA5, 40 PTA6, 41 PTA7, 42 PTA12, 43 PTA13, 44 PTA14, 45 PTA15, 46 PTA16, 47 PTA17, 48 VDD hidden, 49 VSS hidden, 50 PTA18, 51 PTA19, 52 PTA20, 53 PTB0/LLWU_P5, 54 PTB1, 55 PTB2, 56 PTB3, 57 PTB7, 58 PTB8, 59 PTB9, 60 PTB10, 61 PTB11, 62 PTB16, 63 PTB17, 64 PTB18, 65 PTB19, 66 PTB2, 67 PTB21, 68 PTB22, 69 PTB23, 70 PTC0, 71 PTC1/LLWU_P6/RTC_CLKIN, 72 PTC2, 73 PTC3/LLWU_P7, 74 VSS hidden, 75 VLL3, 76 VLL2/PTC20, 77 VLL1/PTC21, 78 VCAP2/PTC22, 79 VCAP1/PTC23, 80 PTC4/LLWU_P8, 81 PTC5/LLWU_P9, 82 PTC6/LLWU_P10, 83 PTC7, 84 PTC8, 85 PTC9, 86 PTC10, 87 PTC11, 88 PTC12, 89 PTC13, 90 PTC16, 91 PTC17, 92 PTC18, 93 PTD0, 94 PTD1, 95 PTD2, 96 PTD3, 97 PTD4/LLWU_P14, 98 PTD5, 99 PTD6/LLWU_P15, 100 PTD7

## MKL46Z256VMC4
designator *  value MKL46Z256VMC4  Reference: U
ki_keywords: Kinetis KL46 ARM Cortex M0+; ki_description: Kinetis KL46 series, 48-MHz/32-bit ARM Cortex-M0+, 256 kB flash, 32 kB SRAM, USB FS Device/OTG, Segment LCD, TSI, MAPBGA-121; ki_fp_filters: XFBGA*8x8mm*P0.65mm*; Footprint: Package_BGA:XFBGA-121_8x8mm_Layout11x11_P0.65mm; Datasheet: http://www.nxp.com/docs/en/data-sheet/KL46P121M48SF4.pdf
pins: A1 PTD7, A2 PTD5, A3 PTD4/LLWU_P14, A4 NC hidden, A5 NC hidden, A6 PTC13, A7 PTC8, A8 PTC4/LLWU_P8, A9 VLL1/PTC21, A10 VLL2/PTC20, A11 VLL3, B1 NC hidden, B2 PTD6/LLWU_P15, B3 PTD3, B4 PTC18, B5 NC hidden, B6 PTC12, B7 PTC7, B8 PTC3/LLWU_P7, B9 PTC0, B10 PTB16, B11 VCAP2/PTC22, C1 NC hidden, C2 NC hidden, C3 PTD2, C4 PTC17, C5 PTC11, C6 PTC10, C7 PTC6/LLWU_P10, C8 PTC2, C9 PTB19, C10 PTB11, C11 VCAP1/PTC23, D1 NC hidden, D2 NC hidden, D3 PTD1, D4 PTD0, D5 PTC16, D6 PTC9, D7 PTC5/LLWU_P9, D8 PTC1/LLWU_P6/RTC_CLKIN, D9 PTB18, D10 PTB10, D11 PTB8, E1 NC hidden, E2 PTE2, E3 PTE1, E4 PTE0, E5 VDD, E6 VDD hidden, E7 VDD hidden, E8 PTB23, E9 PTB17, E10 PTB9, E11 PTB7, F1 USB0_DP, F2 USB0_DM, F3 PTE6, F4 PTE3, F5 VDDA, F6 VSSA, F7 VSS, F8 PTB22, F9 PTB21, F10 PTB2, F11 NC hidden, G1 VOUT33, G2 VREGIN, G3 VSS hidden, G4 PTE5, G5 VREFH, G6 VREFL, G7 VSS hidden, G8 PTB3, G9 PTB2, G10 PTB1, G11 PTB0/LLWU_P5, H1 PTE16, H2 PTE17, H3 NC hidden, H4 PTA7, H5 PTE24, H6 PTE26, H7 PTE4, H8 PTA1, H9 PTA3, H10 PTA17, H11 NC hidden, J1 PTE18, J2 PTE19, J3 NC hidden, J4 NC hidden, J5 PTE25, J6 PTA0, J7 PTA2, J8 PTA4, J9 NC hidden, J10 PTA16, J11 PTA20, K1 PTE20, K2 PTE21, K3 PTA6, K4 NC hidden, K5 PTE30, K6 VDD hidden, K7 PTA5, K8 PTA12, K9 PTA14, K10 VSS hidden, K11 PTA19, L1 PTE22, L2 PTE23, L3 PTE29, L4 PTE31, L5 VSS hidden, L6 VSS hidden, L7 NC hidden, L8 PTA13, L9 PTA15, L10 VDD hidden, L11 PTA18

## MKL46Z256VMP4
designator *  value MKL46Z256VMP4  Reference: U
ki_keywords: Kinetis KL46 ARM Cortex M0+; ki_description: Kinetis KL46 series, 48-MHz/32-bit ARM Cortex-M0+, 256 kB flash, 32 kB SRAM, USB FS Device/OTG, Segment LCD, TSI, MAPBGA-64; ki_fp_filters: XFBGA*5.0x5.0mm*P0.5mm*; Footprint: Package_BGA:XFBGA-64_5.0x5.0mm_Layout8x8_P0.5mm; Datasheet: http://www.nxp.com/docs/en/data-sheet/KL46P121M48SF4.pdf
pins: A1 PTE0, A2 PTD7, A3 PTD4/LLWU_P14, A4 PTD1, A5 VCAP1/PTC23, A6 VLL2/PTC20, A7 PTC6/LLWU_P10, A8 PTC5/LLWU_P9, B1 PTE1, B2 PTD6/LLWU_P15, B3 PTD3, B4 VCAP2/PTC22, B5 VLL1/PTC21, B6 PTC7, B7 PTC2, B8 PTC4/LLWU_P8, C1 PTD5, C2 PTD2, C3 PTD0, C4 VSS, C5 VLL3, C6 PTC1/LLWU_P6, C7 PTB19, C8 PTC3/LLWU_P7, D1 USB0_DM, D2 VREGIN, D3 PTA0, D4 PTA1, D5 PTA3, D6 PTB18, D7 PTB17, D8 PTC0, E1 USB0_DP, E2 VOUT33, E3 VSS hidden, E4 VDD, E5 PTA2, E6 PTB16, E7 PTB2, E8 PTB3, F1 PTE21, F2 PTE23, F3 VSSA, F4 VDDA, F5 PTA5, F6 PTB1, F7 PTB0/LLWU_P5, F8 PTA20, G1 PTE20, G2 PTE22, G3 VREFL, G4 VREFH, G5 PTA4, G6 PTA13, G7 VDD hidden, G8 PTA19, H1 PTE29, H2 PTE30, H3 PTE31, H4 PTE24, H5 PTE25, H6 PTA12, H7 VSS hidden, H8 PTA18

## MKV11Z128VLF7
designator *  value MKV11Z128VLF7  Reference: U
ki_keywords: Kinetis KV11 ARM Cortex M0+; ki_description: Kinetis KV11 series, 75-MHz/32-bit ARM Cortex-M0+, 128 kB flash, 16 kB RAM, Entry-Level, Real-time Motor Control, LQFP-48; ki_fp_filters: LQFP*7x7mm*P0.5mm*; Footprint: Package_QFP:LQFP-48_7x7mm_P0.5mm; Datasheet: https://www.nxp.com/docs/en/data-sheet/KV11P64M75.pdf
pins: 1 VDD, 2 VSS, 3 PTE16, 4 PTE17, 5 PTE18, 6 PTE19, 7 PTE20, 8 PTE21, 9 VDDA, 10 VREFH, 11 VREFL, 12 VSSA, 13 PTE29, 14 PTE30, 15 PTE24, 16 PTE25, 17 PTA0, 18 PTA1, 19 PTA2, 20 PTA3, 21 PTA4, 22 VDD, 23 VSS hidden, 24 PTA18, 25 PTA19, 26 PTA20, 27 PTB0, 28 PTB1, 29 PTB2, 30 PTB3, 31 PTB16, 32 PTB17, 33 PTC0, 34 PTC1, 35 PTC2, 36 PTC3, 37 PTC4, 38 PTC5, 39 PTC6, 40 PTC7, 41 PTD0, 42 PTD1, 43 PTD2, 44 PTD3, 45 PTD4, 46 PTD5, 47 PTD6, 48 PTD7